# Altium integrated library STMicroelectronics STM32 L1.IntLib: 169 symbols (part 8 of 20)
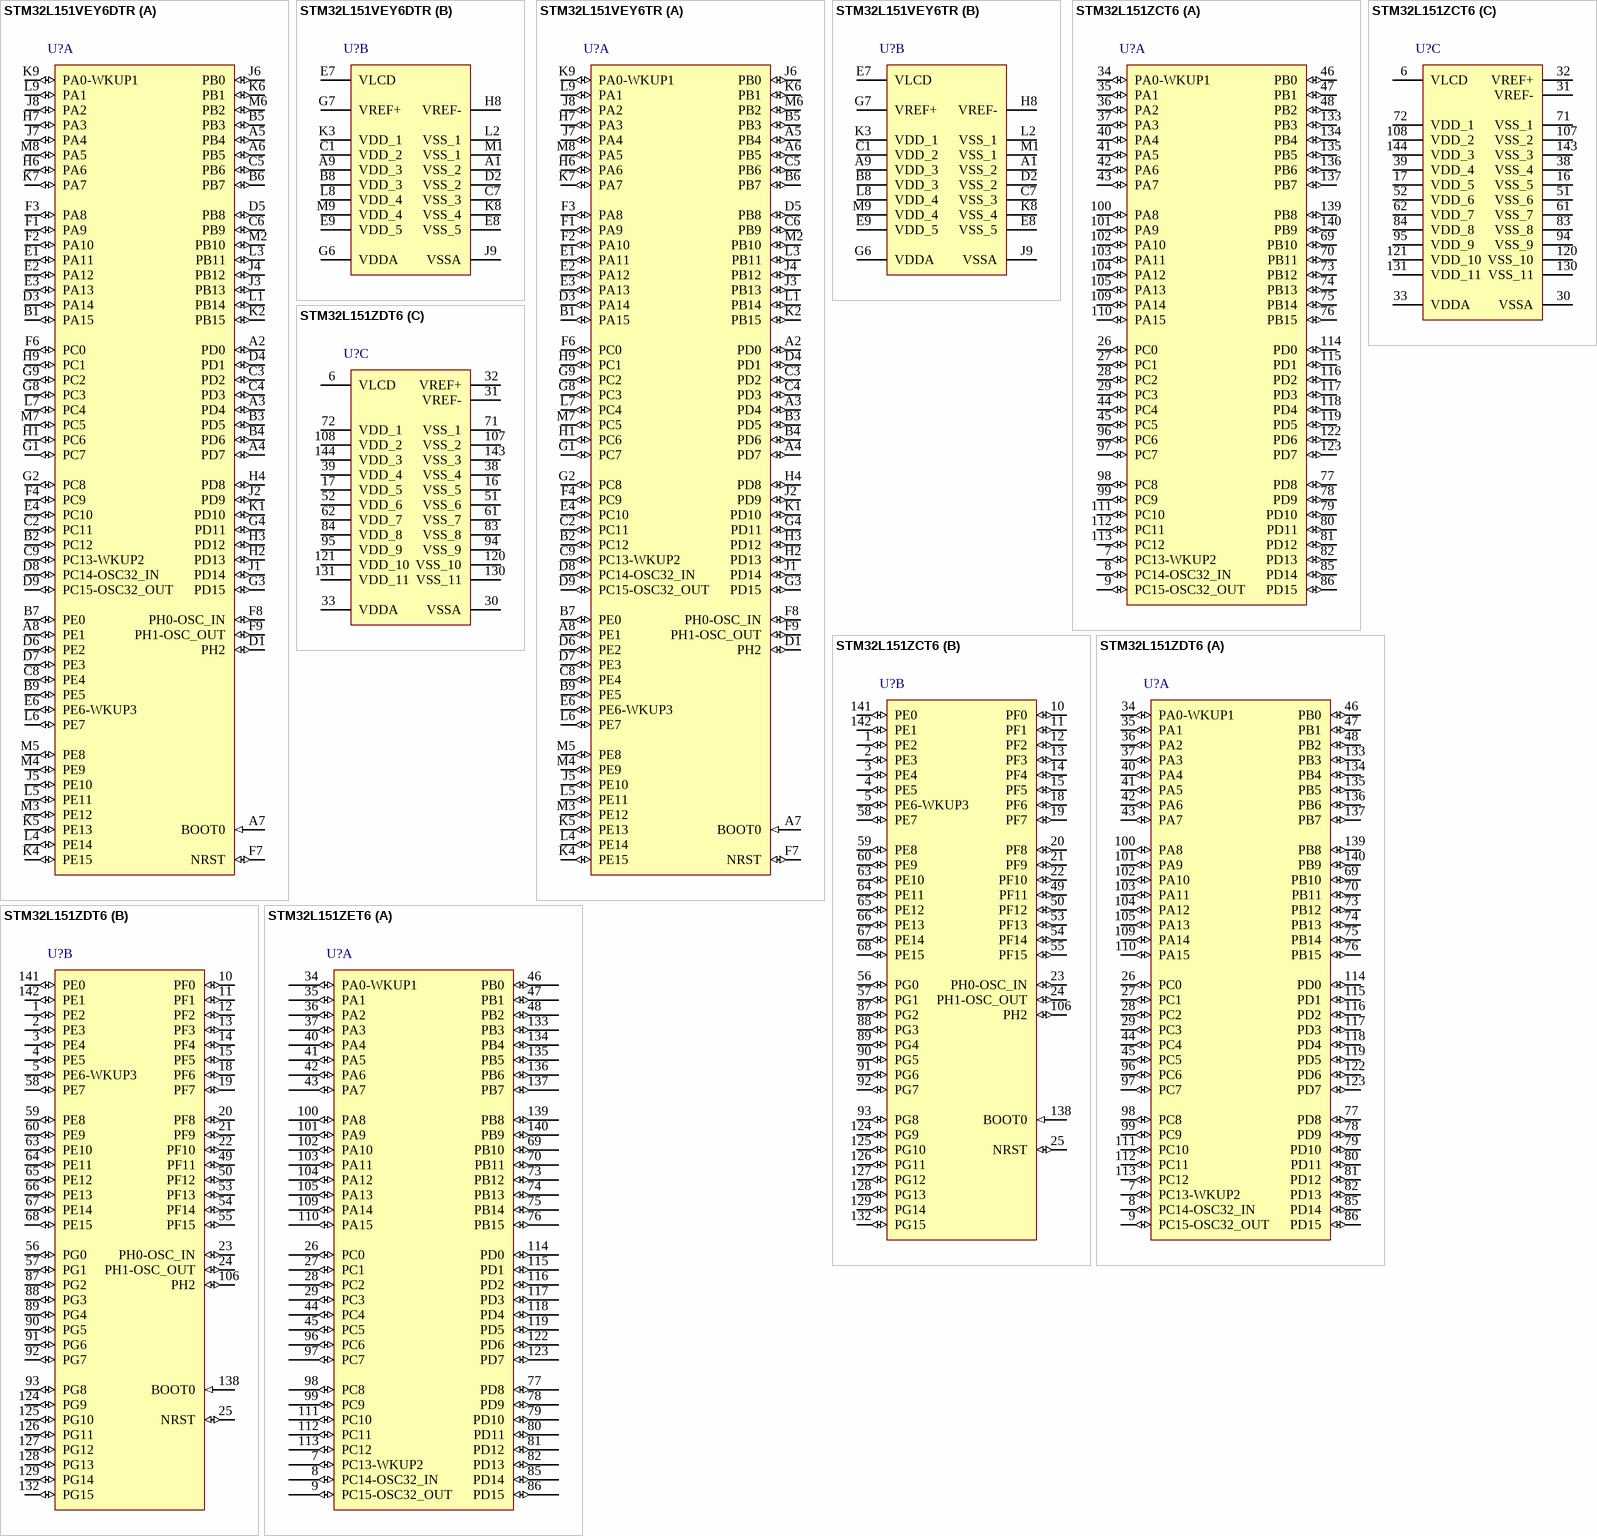
[diagram p41: symbols STM32L151VEY6DTR to STM32L151ZET6]

## STM32L151ZCT6
designator U?
ARM Cortex-M3 32-bit MCU, 256 KB Flash, 32 KB Internal RAM, 115 I/Os, 144-pin LQFP, -40 to 85 degC, Tray; Manufacturer: STMicroelectronics; PartNumber: STM32L151ZCT6; D/A Converter: 2x12-bit (2 Channel); Data E2PROM nom (B): 8192; FLASH Size (Prog) (kB): 256; I/Os (High Current): 115; Internal RAM Size (kB): 32; Supply Voltage(Vcc) min (V): 1.65; DatasheetVersion: Rev. 3; PackageVersion: Rev. 4, 06/2013; PackageReference: LQFP144; PackageDescription: 144-Pin Low Profile Quad Flat Package, 20 x 20 mm Body, 0.5 mm Pitch; Core: ARM Cortex-M3; Operating Frequency(F) (Processor speed) (MHz): 32; Packing: Tray; Mounting Technology: Surface Mount; ComponentLink1Description: Manufacturer URL; ComponentLink1URL: http://www.st.com/web/en/home.html; ComponentLink2Description: Datasheet; ComponentLink2URL: http://www.st.com/st-web-ui/static/active/en/resource/technical/document/datasheet/DM00048356.pdf; ComponentLink3Description: Package Specification; ComponentLink3URL: http://www.st.com/st-web-ui/static/active/en/resource/technical/document/datasheet/DM00037051.pdf
footprint STM-LQFP144_N (Thin QFP, 144-Leads, Body 20x20mm, Pitch 0.5mm, IPC Medium Density)
footprint STM-LQFP144_L (Thin QFP, 144-Leads, Body 20x20mm, Pitch 0.5mm, IPC High Density)
footprint STM-LQFP144_M (Thin QFP, 144-Leads, Body 20x20mm, Pitch 0.5mm, IPC Low Density)
footprint STM-LQFP144_V (Thin QFP, 144-Leads, Body 20x20mm, Pitch 0.5mm, ST Recommended)
part A pins: 7 PC13-WKUP2 (io) "PC13-WKUP2/PC13/WKUP2/RTC_TAMP1/RTC_TS/RTC_OUT", 8 PC14-OSC32_IN (io) "PC14-OSC32_IN/PC14/OSC32_IN", 9 PC15-OSC32_OUT (io) "PC15-OSC32_OUT/PC15/OSC32_OUT", 26 PC0 (io) "PC0/LCD_SEG18/ADC_IN10/COMP1_INP", 27 PC1 (io) "PC1/LCD_SEG19/ADC_IN11/COMP1_INP", 28 PC2 (io) "PC2/LCD_SEG20/ADC_IN12/COMP1_INP", 29 PC3 (io) "PC3/LCD_SEG21/ADC_IN13/COMP1_INP", 34 PA0-WKUP1 (io) "PA0-WKUP1/PA0/WKUP1/RTC_TAMP2/TIM2_CH1_ETR/TIM5_CH1/USART2_CTS/ADC_IN0/COMP1_INP", 35 PA1 (io) "PA1/TIM2_CH2/TIM5_CH2/USART2_RTS/LCD_SEG0/ADC_IN1/COMP1_INP/OPAMP1_VINP", 36 PA2 (io) "PA2/TIM2_CH3/TIM5_CH3/TIM9_CH1/USART2_TX/LCD_SEG1/ADC_IN2/COMP1_INP/OPAMP1_VINM", 37 PA3 (io) "PA3/TIM2_CH4/TIM5_CH4/TIM9_CH2/USART2_RX/LCD_SEG2/ADC_IN3/COMP1_INP/OPAMP1_VOUT", 40 PA4 (io) "PA4/SPI1_NSS/SPI3_NSS/I2S3_WS/USART2_CK/ADC_IN4/DAC_OUT1/COMP1_INP", 41 PA5 (io) "PA5/TIM2_CH1_ETR/SPI1_SCK/ADC_IN5/DAC_OUT2/COMP1_INP", 42 PA6 (io) "PA6/TIM3_CH1/TIM10_CH1/SPI1_MISO/LCD_SEG3/ADC_IN6/COMP1_INP/OPAMP2_VINP", 43 PA7 (io) "PA7/TIM3_CH2/TIM11_CH1/SPI1_MOSI/LCD_SEG4/ADC_IN7/COMP1_INP/OPAMP2_VINM", 44 PC4 (io) "PC4/LCD_SEG22/ADC_IN14/COMP1_INP", 45 PC5 (io) "PC5/LCD_SEG23/ADC_IN15/COMP1_INP", 46 PB0 (io) "PB0/TIM3_CH3/LCD_SEG5/ADC_IN8/COMP1_INP/VREF_OUT/OPAMP2_VOUT", 47 PB1 (io) "PB1/TIM3_CH4/LCD_SEG6/ADC_IN9/COMP1_INP/VREF_OUT", 48 PB2 (io) "PB2/BOOT1/ADC_IN0B/COMP1_INP", 69 PB10 (io) "PB10/TIM2_CH3/I2C2_SCL/USART3_TX/LCD_SEG10", 70 PB11 (io) "PB11/TIM2_CH4/I2C2_SDA/USART3_RX/LCD_SEG11", 73 PB12 (io) "PB12/TIM10_CH1/I2C2_SMBA/SPI2_NSS/I2S2_WS/USART3_CK/LCD_SEG12/ADC_IN18/COMP1_INP", 74 PB13 (io) "PB13/TIM9_CH1/SPI2_SCK/I2S2_CK/USART3_CTS/LCD_SEG13/ADC_IN19/COMP1_INP", 75 PB14 (io) "PB14/TIM9_CH2/SPI2_MISO/USART3_RTS/LCD_SEG14/ADC_IN20/COMP1_INP", 76 PB15 (io) "PB15/TIM11_CH1/SPI2_MOSI/I2S2_SD/LCD_SEG15/ADC_IN21/COMP1_INP/RTC_REFIN", 77 PD8 (io) "PD8/USART3_TX/LCD_SEG28", 78 PD9 (io) "PD9/USART3_RX/LCD_SEG29", 79 PD10 (io) "PD10/USART3_CK/LCD_SEG30", 80 PD11 (io) "PD11/USART3_CTS/LCD_SEG31", 81 PD12 (io) "PD12/TIM4_CH1/USART3_RTS/LCD_SEG32", 82 PD13 (io) "PD13/TIM4_CH2/LCD_SEG33", 85 PD14 (io) "PD14/TIM4_CH3/LCD_SEG34", 86 PD15 (io) "PD15/TIM4_CH4/LCD_SEG35", 96 PC6 (io) "PC6/TIM3_CH1/I2S2_MCK/LCD_SEG24", 97 PC7 (io) "PC7/TIM3_CH2/I2S3_MCK/LCD_SEG25", 98 PC8 (io) "PC8/TIM3_CH3/LCD_SEG26", 99 PC9 (io) "PC9/TIM3_CH4/LCD_SEG27", 100 PA8 (io) "PA8/USART1_CK/MCO/LCD_COM0", 101 PA9 (io) "PA9/USART1_TX/LCD_COM1", 102 PA10 (io) "PA10/USART1_RX/LCD_COM2", 103 PA11 (io) "PA11/USART1_CTS/USB_DM/SPI1_MISO", 104 PA12 (io) "PA12/USART1_RTS/USB_DP/SPI1_MOSI", 105 PA13 (io) "PA13/JTMS-SWDAT", 109 PA14 (io) "PA14/JTCK-SWCLK", 110 PA15 (io) "PA15/JTDI/TIM2_CH1_ETR/SPI1_NSS/SPI3_NSS/I2S3_WS/LCD_SEG17", 111 PC10 (io) "PC10/SPI3_SCK/I2S3_CK/USART3_TX/LCD_SEG28/LCD_SEG40/LCD_COM4", 112 PC11 (io) "PC11/SPI3_MISO/USART3_RX/LCD_SEG29/LCD_SEG41/LCD_COM5", 113 PC12 (io) "PC12/SPI3_MOSI/I2S3_SD/USART3_CK/LCD_SEG30/LCD_SEG42/LCD_COM6", 114 PD0 (io) "PD0/TIM9_CH1/SPI2_NSS/I2S2_WS", 115 PD1 (io) "PD1/SPI2_SCK/I2S2_CK", 116 PD2 (io) "PD2/TIM3_ETR/LCD_SEG31/LCD_SEG43/LCD_COM7", 117 PD3 (io) "PD3/SPI2_MISO/USART2_CTS", 118 PD4 (io) "PD4/SPI2_MOSI/I2S2_SD/USART2_RTS", 119 PD5 (io) "PD5/USART2_TX", 122 PD6 (io) "PD6/USART2_RX", 123 PD7 (io) "PD7/TIM9_CH2/USART2_CK", 133 PB3 (io) "PB3/JTDO/TIM2_CH2/SPI1_SCK/SPI3_SCK/I2S3_CK/LCD_SEG7/COMP2_INM", 134 PB4 (io) "PB4/NJTRST/TIM3_CH1/SPI1_MISO/SPI3_MISO/LCD_SEG8/COMP2_INP", 135 PB5 (io) "PB5/TIM3_CH2/I2C1_SMBA/SPI1_MOSI/SPI3_MOSI/I2S3_SD/LCD_SEG9/COMP2_INP", 136 PB6 (io) "PB6/TIM4_CH1/I2C1_SCL/USART1_TX/COMP2_INP", 137 PB7 (io) "PB7/TIM4_CH2/I2C1_SDA/USART1_RX/PVD_IN/COMP2_INP", 139 PB8 (io) "PB8/TIM4_CH3/TIM10_CH1/I2C1_SCL/LCD_SEG16", 140 PB9 (io) "PB9/TIM4_CH4/TIM11_CH1/I2C1_SDA/LCD_COM3"
part B pins: 1 PE2 (io) "PE2/TIM3_ETR/LCD_SEG38/TRACECLK", 2 PE3 (io) "PE3/TIM3_CH1/LCD_SEG39/TRACED0", 3 PE4 (io) "PE4/TIM3_CH2/TRACED1", 4 PE5 (io) "PE5/TIM9_CH1/TRACED2", 5 PE6-WKUP3 (io) "PE6-WKUP3/PE6/WKUP3/RTC_TAMP3/TIM9_CH2/TRACED3", 10 PF0 (io), 11 PF1 (io), 12 PF2 (io), 13 PF3 (io), 14 PF4 (io), 15 PF5 (io), 18 PF6 (io) "PF6/TIM5_CH1/TIM5_ETR/ADC_IN27", 19 PF7 (io) "PF7/TIM5_CH2/ADC_IN28/COMP1_INP", 20 PF8 (io) "PF8/TIM5_CH3/ADC_IN29/COMP1_INP", 21 PF9 (io) "PF9/TIM5_CH4/ADC_IN30/COMP1_INP", 22 PF10 (io) "PF10/ADC_IN30/COMP1_INP", 23 PH0-OSC_IN (io) "PH0-OSC_IN/PH0/OSC_IN", 24 PH1-OSC_OUT (io) "PH1-OSC_OUT/PH1/OSC_OUT", 25 NRST (io), 49 PF11 (io) "PF11/ADC_IN1B/COMP1_INP", 50 PF12 (io) "PF12/ADC_IN2B/COMP1_INP", 53 PF13 (io) "PF13/ADC_IN3B/COMP1_INP", 54 PF14 (io) "PF14/ADC_IN6B/COMP1_INP", 55 PF15 (io) "PF15/ADC_IN7B/COMP1_INP", 56 PG0 (io) "PG0/ADC_IN8B/COMP1_INP", 57 PG1 (io) "PG1/ADC_IN9B/COMP1_INP", 58 PE7 (io) "PE7/ADC_IN22/COMP1_INP", 59 PE8 (io) "PE8/ADC_IN23/COMP1_INP", 60 PE9 (io) "PE9/TIM2_CH1_ETR/ADC_IN24/COMP1_INP", 63 PE10 (io) "PE10/TIM2_CH2/ADC_IN25/COMP1_INP", 64 PE11 (io) "PE11/TIM2_CH3", 65 PE12 (io) "PE12/TIM2_CH4/SPI1_NSS", 66 PE13 (io) "PE13/SPI1_SCK", 67 PE14 (io) "PE14/SPI1_MISO", 68 PE15 (io) "PE15/SPI1_MOSI", 87 PG2 (io) "PG2/ADC_IN10B/COMP1_INP", 88 PG3 (io) "PG3/ADC_IN11B/COMP1_INP", 89 PG4 (io) "PG4/ADC_IN12B/COMP1_INP", 90 PG5 (io), 91 PG6 (io), 92 PG7 (io), 93 PG8 (io), 106 PH2 (io), 124 PG9 (io), 125 PG10 (io), 126 PG11 (io), 127 PG12 (io), 128 PG13 (io), 129 PG14 (io), 132 PG15 (io), 138 BOOT0 (in), 141 PE0 (io) "PE0/TIM4_ETR/TIM10_CH1/LCD_SEG36", 142 PE1 (io) "PE1/TIM11_CH1/LCD_SEG37"
part C pins: 6 VLCD (power), 16 VSS_5 (power), 17 VDD_5 (power), 30 VSSA (power), 31 VREF- (power), 32 VREF+ (power), 33 VDDA (power), 38 VSS_4 (power), 39 VDD_4 (power), 51 VSS_6 (power), 52 VDD_6 (power), 61 VSS_7 (power), 62 VDD_7 (power), 71 VSS_1 (power), 72 VDD_1 (power), 83 VSS_8 (power), 84 VDD_8 (power), 94 VSS_9 (power), 95 VDD_9 (power), 107 VSS_2 (power), 108 VDD_2 (power), 120 VSS_10 (power), 121 VDD_10 (power), 130 VSS_11 (power), 131 VDD_11 (power), 143 VSS_3 (power), 144 VDD_3 (power)

## STM32L151ZDT6
designator U?
ARM Cortex-M3 32-bit MCU, 384 KB Flash, 48 KB Internal RAM, 115 I/Os, 144-pin LQFP, -40 to 85 degC, Tray; Manufacturer: STMicroelectronics; PartNumber: STM32L151ZDT6; D/A Converter: 2x12-bit (2 Channel); Data E2PROM nom (B): 12288; FLASH Size (Prog) (kB): 384; I/Os (High Current): 115; Integrated op-amps: 3; Internal RAM Size (kB): 48; Operating Frequency(F) (Processor speed) (MHz): 32; Supply Voltage(Vcc) min (V): 1.65; DatasheetVersion: Rev. 6; PackageVersion: Rev. 4, 06/2013; PackageReference: LQFP144; PackageDescription: 144-Pin Low Profile Quad Flat Package, 20 x 20 mm Body, 0.5 mm Pitch; Core: ARM Cortex-M3; Packing: Tray; Mounting Technology: Surface Mount; ComponentLink1Description: Manufacturer URL; ComponentLink1URL: http://www.st.com/web/en/home.html; ComponentLink2Description: Datasheet; ComponentLink2URL: http://www.st.com/st-web-ui/static/active/en/resource/technical/document/datasheet/DM00034689.pdf; ComponentLink3Description: Package Specification; ComponentLink3URL: http://www.st.com/st-web-ui/static/active/en/resource/technical/document/datasheet/DM00037051.pdf
footprint STM-LQFP144_N (Thin QFP, 144-Leads, Body 20x20mm, Pitch 0.5mm, IPC Medium Density)
footprint STM-LQFP144_L (Thin QFP, 144-Leads, Body 20x20mm, Pitch 0.5mm, IPC High Density)
footprint STM-LQFP144_M (Thin QFP, 144-Leads, Body 20x20mm, Pitch 0.5mm, IPC Low Density)
footprint STM-LQFP144_V (Thin QFP, 144-Leads, Body 20x20mm, Pitch 0.5mm, ST Recommended)
part A pins: 7 PC13-WKUP2 (io) "PC13-WKUP2/PC13/WKUP2/RTC_TAMP1/RTC_TS/RTC_OUT", 8 PC14-OSC32_IN (io) "PC14-OSC32_IN/PC14/OSC32_IN", 9 PC15-OSC32_OUT (io) "PC15-OSC32_OUT/PC15/OSC32_OUT", 26 PC0 (io) "PC0/LCD_SEG18/ADC_IN10/COMP1_INP", 27 PC1 (io) "PC1/LCD_SEG19/ADC_IN11/COMP1_INP/OPAMP3_VINP", 28 PC2 (io) "PC2/LCD_SEG20/ADC_IN12/COMP1_INP/OPAMP3_VINM", 29 PC3 (io) "PC3/LCD_SEG21/ADC_IN13/COMP1_INP/OPAMP3_VOUT", 34 PA0-WKUP1 (io) "PA0-WKUP1/PA0/WKUP1/RTC_TAMP2/TIM2_CH1_ETR/TIM5_CH1/USART2_CTS/ADC_IN0/COMP1_INP", 35 PA1 (io) "PA1/TIM2_CH2/TIM5_CH2/USART2_RTS/LCD_SEG0/ADC_IN1/COMP1_INP/OPAMP1_VINP", 36 PA2 (io) "PA2/TIM2_CH3/TIM5_CH3/TIM9_CH1/USART2_TX/LCD_SEG1/ADC_IN2/COMP1_INP/OPAMP1_VINM", 37 PA3 (io) "PA3/TIM2_CH4/TIM5_CH4/TIM9_CH2/USART2_RX/LCD_SEG2/ADC_IN3/COMP1_INP/OPAMP1_VOUT", 40 PA4 (io) "PA4/SPI1_NSS/SPI3_NSS/I2S3_WS/USART2_CK/ADC_IN4/DAC_OUT1/COMP1_INP", 41 PA5 (io) "PA5/TIM2_CH1_ETR/SPI1_SCK/ADC_IN5/DAC_OUT2/COMP1_INP", 42 PA6 (io) "PA6/TIM3_CH1/TIM10_CH1/SPI1_MISO/LCD_SEG3/ADC_IN6/COMP1_INP/OPAMP2_VINP", 43 PA7 (io) "PA7/TIM3_CH2/TIM11_CH1/SPI1_MOSI/LCD_SEG4/ADC_IN7/COMP1_INP/OPAMP2_VINM", 44 PC4 (io) "PC4/LCD_SEG22/ADC_IN14/COMP1_INP", 45 PC5 (io) "PC5/LCD_SEG23/ADC_IN15/COMP1_INP", 46 PB0 (io) "PB0/TIM3_CH3/LCD_SEG5/ADC_IN8/COMP1_INP/VREF_OUT/OPAMP2_VOUT", 47 PB1 (io) "PB1/TIM3_CH4/LCD_SEG6/ADC_IN9/COMP1_INP/VREF_OUT", 48 PB2 (io) "PB2/BOOT1/ADC_IN0B/COMP1_INP", 69 PB10 (io) "PB10/TIM2_CH3/I2C2_SCL/USART3_TX/LCD_SEG10", 70 PB11 (io) "PB11/TIM2_CH4/I2C2_SDA/USART3_RX/LCD_SEG11", 73 PB12 (io) "PB12/TIM10_CH1/I2C2_SMBA/SPI2_NSS/I2S2_WS/USART3_CK/LCD_SEG12/ADC_IN18/COMP1_INP", 74 PB13 (io) "PB13/TIM9_CH1/SPI2_SCK/I2S2_CK/USART3_CTS/LCD_SEG13/ADC_IN19/COMP1_INP", 75 PB14 (io) "PB14/TIM9_CH2/SPI2_MISO/USART3_RTS/LCD_SEG14/ADC_IN20/COMP1_INP", 76 PB15 (io) "PB15/TIM11_CH1/SPI2_MOSI/I2S2_SD/LCD_SEG15/ADC_IN21/COMP1_INP/RTC_REFIN", 77 PD8 (io) "PD8/USART3_TX/LCD_SEG28/FSMC_D13", 78 PD9 (io) "PD9/USART3_RX/LCD_SEG29/FSMC_D14", 79 PD10 (io) "PD10/USART3_CK/LCD_SEG30/FSMC_D15", 80 PD11 (io) "PD11/USART3_CTS/LCD_SEG31/FSMC_A16", 81 PD12 (io) "PD12/TIM4_CH1/USART3_RTS/LCD_SEG32/FSMC_A17", 82 PD13 (io) "PD13/TIM4_CH2/LCD_SEG33/FSMC_A18", 85 PD14 (io) "PD14/TIM4_CH3/LCD_SEG34/FSMC_D0", 86 PD15 (io) "PD15/TIM4_CH4/LCD_SEG35/FSMC_D1", 96 PC6 (io) "PC6/TIM3_CH1/I2S2_MCK/LCD_SEG24/SDIO_D6", 97 PC7 (io) "PC7/TIM3_CH2/I2S3_MCK/LCD_SEG25/SDIO_D7", 98 PC8 (io) "PC8/TIM3_CH3/LCD_SEG26/SDIO_D0", 99 PC9 (io) "PC9/TIM3_CH4/LCD_SEG27/SDIO_D1", 100 PA8 (io) "PA8/USART1_CK/MCO/LCD_COM0", 101 PA9 (io) "PA9/USART1_TX/LCD_COM1", 102 PA10 (io) "PA10/USART1_RX/LCD_COM2", 103 PA11 (io) "PA11/USART1_CTS/USB_DM/SPI1_MISO", 104 PA12 (io) "PA12/USART1_RTS/USB_DP/SPI1_MOSI", 105 PA13 (io) "PA13/JTMS-SWDAT", 109 PA14 (io) "PA14/JTCK-SWCLK", 110 PA15 (io) "PA15/JTDI/TIM2_CH1_ETR/SPI1_NSS/SPI3_NSS/I2S3_WS/LCD_SEG17", 111 PC10 (io) "PC10/SPI3_SCK/I2S3_CK/USART3_TX/UART4_TX/LCD_SEG28/LCD_SEG40/LCD_COM4/SDIO_D2", 112 PC11 (io) "PC11/SPI3_MISO/USART3_RX/UART4_RX/LCD_SEG29/LCD_SEG41/LCD_COM5/SDIO_D3", 113 PC12 (io) "PC12/SPI3_MOSI/I2S3_SD/USART3_CK/UART5_TX/LCD_SEG30/LCD_SEG42/LCD_COM6/SDIO_CK", 114 PD0 (io) "PD0/TIM9_CH1/SPI2_NSS/I2S2_WS/FSMC_D2", 115 PD1 (io) "PD1/SPI2_SCK/I2S2_CK/FSMC_D3", 116 PD2 (io) "PD2/TIM3_ETR/UART5_RX/LCD_SEG31/LCD_SEG43/LCD_COM7/SDIO_CMD", 117 PD3 (io) "PD3/SPI2_MISO/USART2_CTS/FSMC_CLK", 118 PD4 (io) "PD4/SPI2_MOSI/I2S2_SD/USART2_RTS/FSMC_NOE", 119 PD5 (io) "PD5/USART2_TX/FSMC_NWE", 122 PD6 (io) "PD6/USART2_RX/FSMC_NWAIT", 123 PD7 (io) "PD7/TIM9_CH2/USART2_CK/FSMC_NE1", 133 PB3 (io) "PB3/JTDO/TIM2_CH2/SPI1_SCK/SPI3_SCK/I2S3_CK/LCD_SEG7/COMP2_INM", 134 PB4 (io) "PB4/NJTRST/TIM3_CH1/SPI1_MISO/SPI3_MISO/LCD_SEG8/COMP2_INP", 135 PB5 (io) "PB5/TIM3_CH2/I2C1_SMBA/SPI1_MOSI/SPI3_MOSI/I2S3_SD/LCD_SEG9/COMP2_INP", 136 PB6 (io) "PB6/TIM4_CH1/I2C1_SCL/USART1_TX/COMP2_INP", 137 PB7 (io) "PB7/TIM4_CH2/I2C1_SDA/USART1_RX/PVD_IN/FSMC_NADV/COMP2_INP", 139 PB8 (io) "PB8/TIM4_CH3/TIM10_CH1/I2C1_SCL/LCD_SEG16/SDIO_D4", 140 PB9 (io) "PB9/TIM4_CH4/TIM11_CH1/I2C1_SDA/LCD_COM3/SDIO_D5"
part B pins: 1 PE2 (io) "PE2/TIM3_ETR/LCD_SEG38/FSMC_A23/TRACECLK", 2 PE3 (io) "PE3/TIM3_CH1/LCD_SEG39/FSMC_A19/TRACED0", 3 PE4 (io) "PE4/TIM3_CH2/FSMC_A20/TRACED1", 4 PE5 (io) "PE5/TIM9_CH1/FSMC_A21/TRACED2", 5 PE6-WKUP3 (io) "PE6-WKUP3/PE6/WKUP3/RTC_TAMP3/TIM9_CH2/TRACED3", 10 PF0 (io) "PF0/FSMC_A0", 11 PF1 (io) "PF1/FSMC_A1", 12 PF2 (io) "PF2/FSMC_A2", 13 PF3 (io) "PF3/FSMC_A3", 14 PF4 (io) "PF4/FSMC_A4", 15 PF5 (io) "PF5/FSMC_A5", 18 PF6 (io) "PF6/TIM5_CH1/TIM5_ETR/ADC_IN27", 19 PF7 (io) "PF7/TIM5_CH2/ADC_IN28/COMP1_INP", 20 PF8 (io) "PF8/TIM5_CH3/ADC_IN29/COMP1_INP", 21 PF9 (io) "PF9/TIM5_CH4/ADC_IN30/COMP1_INP", 22 PF10 (io) "PF10/ADC_IN30/COMP1_INP", 23 PH0-OSC_IN (io) "PH0-OSC_IN/PH0/OSC_IN", 24 PH1-OSC_OUT (io) "PH1-OSC_OUT/PH1/OSC_OUT", 25 NRST (io), 49 PF11 (io) "PF11/ADC_IN1B/COMP1_INP", 50 PF12 (io) "PF12/ADC_IN2B/COMP1_INP/FSMC_A6", 53 PF13 (io) "PF13/ADC_IN3B/COMP1_INP/FSMC_A7", 54 PF14 (io) "PF14/ADC_IN6B/COMP1_INP/FSMC_A8", 55 PF15 (io) "PF15/ADC_IN7B/COMP1_INP/FSMC_A9", 56 PG0 (io) "PG0/ADC_IN8B/COMP1_INP/FSMC_A10", 57 PG1 (io) "PG1/ADC_IN9B/COMP1_INP/FSMC_A11", 58 PE7 (io) "PE7/FSMC_D4/ADC_IN22/COMP1_INP", 59 PE8 (io) "PE8/FSMC_D5/ADC_IN23/COMP1_INP", 60 PE9 (io) "PE9/TIM2_CH1_ETR/FSMC_D6/ADC_IN24/COMP1_INP", 63 PE10 (io) "PE10/TIM2_CH2/FSMC_D7/ADC_IN25/COMP1_INP", 64 PE11 (io) "PE11/TIM2_CH3/FSMC_D8", 65 PE12 (io) "PE12/TIM2_CH4/SPI1_NSS/FSMC_D9", 66 PE13 (io) "PE13/SPI1_SCK/FSMC_D10", 67 PE14 (io) "PE14/SPI1_MISO/FSMC_D11", 68 PE15 (io) "PE15/SPI1_MOSI/FSMC_D12", 87 PG2 (io) "PG2/FSMC_A12/ADC_IN10B/COMP1_INP", 88 PG3 (io) "PG3/FSMC_A13/ADC_IN11B/COMP1_INP", 89 PG4 (io) "PG4/FSMC_A14/ADC_IN12B/COMP1_INP", 90 PG5 (io) "PG5/FSMC_A15", 91 PG6 (io), 92 PG7 (io), 93 PG8 (io), 106 PH2 (io) "PH2/FSMC_A22", 124 PG9 (io) "PG9/FSMC_NE2", 125 PG10 (io) "PG10/FSMC_NE3", 126 PG11 (io), 127 PG12 (io) "PG12/FSMC_NE4", 128 PG13 (io) "PG13/FSMC_A24", 129 PG14 (io) "PG14/FSMC_A25", 132 PG15 (io), 138 BOOT0 (in), 141 PE0 (io) "PE0/TIM4_ETR/TIM10_CH1/LCD_SEG36/FSMC_NBL0", 142 PE1 (io) "PE1/TIM11_CH1/LCD_SEG37/FSMC_NBL1"
part C pins: 6 VLCD (power), 16 VSS_5 (power), 17 VDD_5 (power), 30 VSSA (power), 31 VREF- (power), 32 VREF+ (power), 33 VDDA (power), 38 VSS_4 (power), 39 VDD_4 (power), 51 VSS_6 (power), 52 VDD_6 (power), 61 VSS_7 (power), 62 VDD_7 (power), 71 VSS_1 (power), 72 VDD_1 (power), 83 VSS_8 (power), 84 VDD_8 (power), 94 VSS_9 (power), 95 VDD_9 (power), 107 VSS_2 (power), 108 VDD_2 (power), 120 VSS_10 (power), 121 VDD_10 (power), 130 VSS_11 (power), 131 VDD_11 (power), 143 VSS_3 (power), 144 VDD_3 (power)

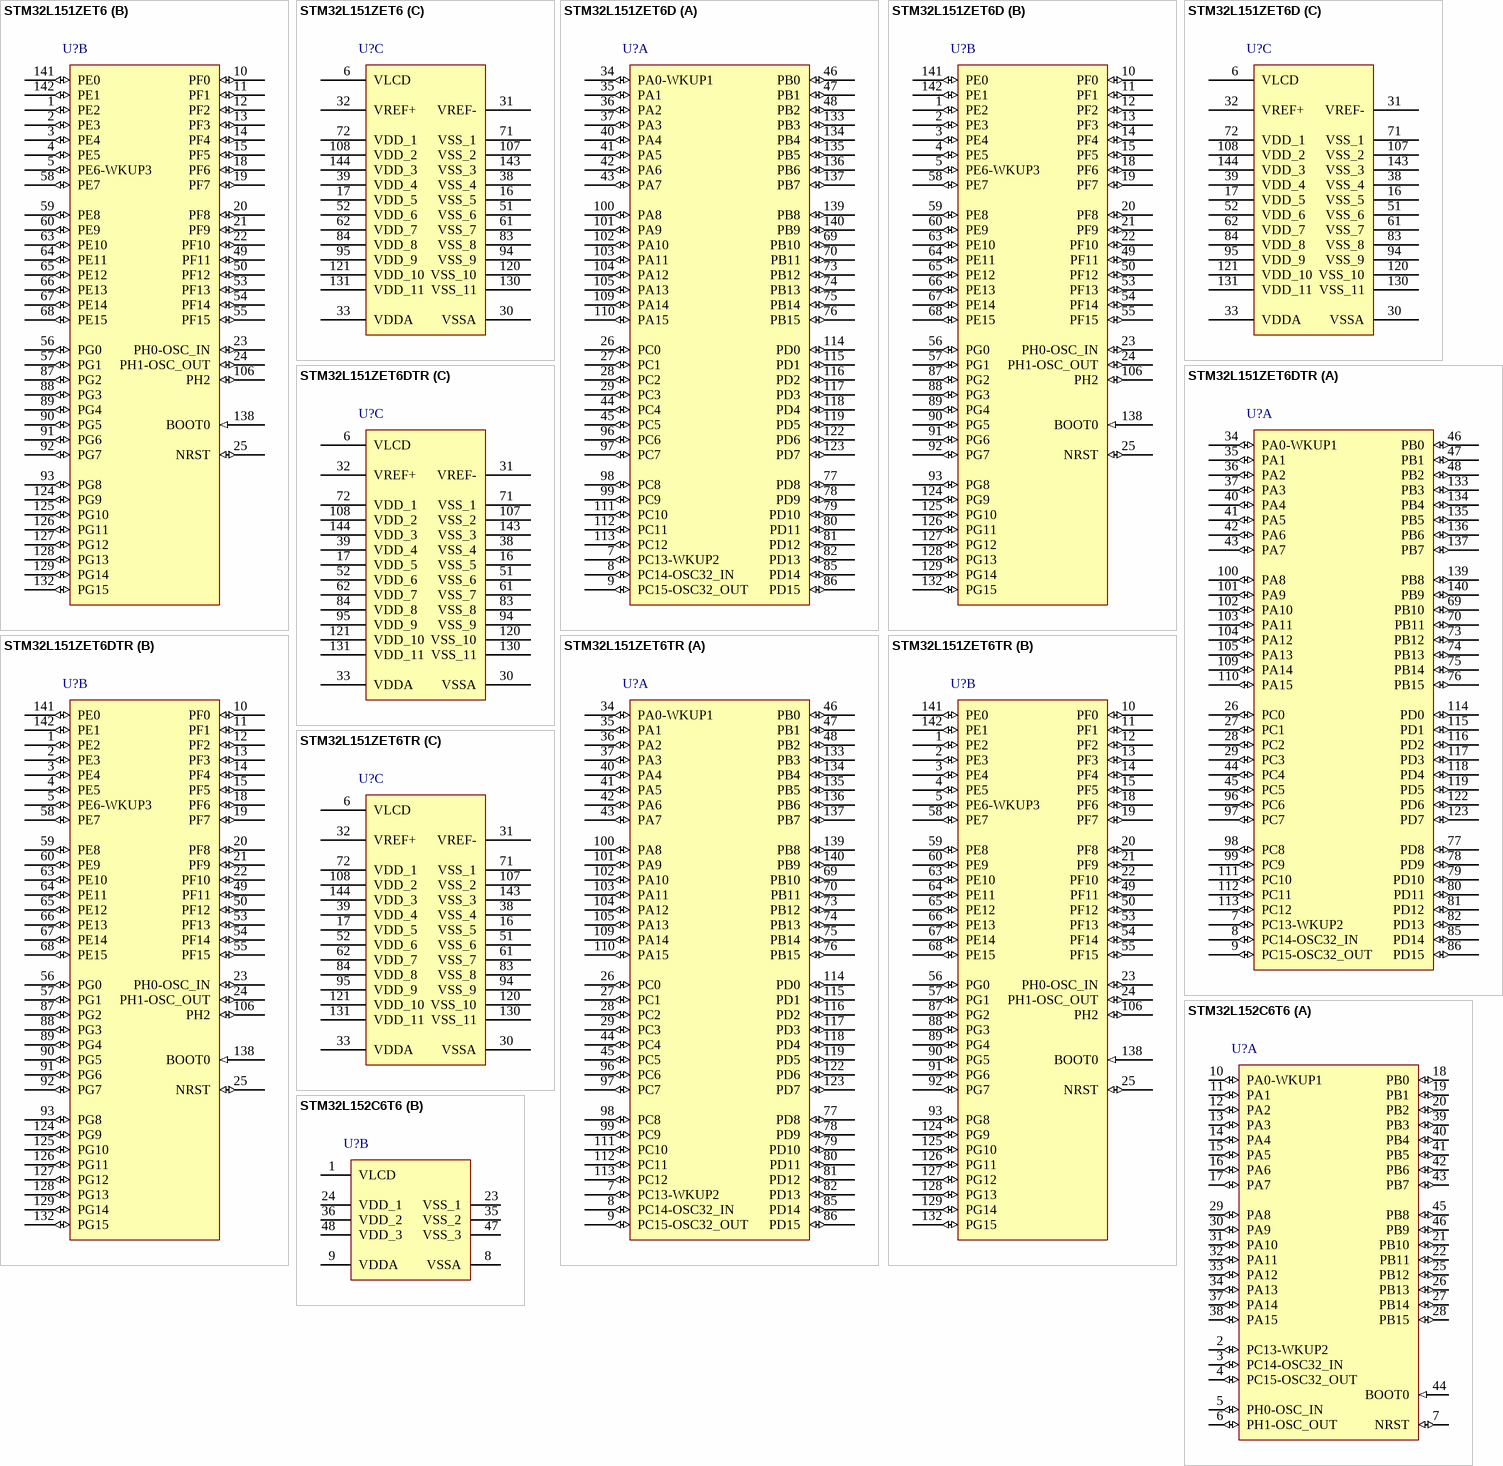
[diagram p12: symbols STM32L151ZET6 to STM32L152C6T6]

## STM32L151ZET6
designator U?
ARM Cortex-M3 32-bit MCU, 512 KB Flash, 80 KB Internal RAM, 115 I/Os, 144-pin LQFP, -40 to 85 degC, Tray; Manufacturer: STMicroelectronics; PartNumber: STM32L151ZET6; D/A Converter: 2x12-bit (2 Channel); Data E2PROM nom (kB): 16; FLASH Size (Prog) (kB): 512; I/Os (High Current): 115; Internal RAM Size (kB): 80; Operating Frequency(F) (Processor speed) (MHz): 32; Supply Voltage (V): 1.8 to 3.6 V; DatasheetVersion: Rev. 4; PackageVersion: Rev. 4; PackageReference: LQFP144; PackageDescription: 144-Pin Low Profile Quad Flat Package, Body 20 x 20 mm, Pitch 0.5 mm; Core: ARM Cortex-M3; Temperature Range: -40 to 85 degC; Packing: Tray; Mounting Technology: Surface Mount; ComponentLink1Description: Manufacturer URL; ComponentLink1URL: http://www.st.com/web/en/home.html; ComponentLink2Description: Datasheet; ComponentLink2URL: http://www.st.com/st-web-ui/static/active/en/resource/technical/document/datasheet/DM00098321.pdf; ComponentLink3Description: Package Specification; ComponentLink3URL: http://www.st.com/st-web-ui/static/active/en/resource/technical/document/datasheet/DM00098321.pdf
footprint STM-LQFP144_N (Thin QFP, 144-Leads, Body 20x20mm, Pitch 0.5mm, IPC Medium Density)
footprint STM-LQFP144_L (Thin QFP, 144-Leads, Body 20x20mm, Pitch 0.5mm, IPC High Density)
footprint STM-LQFP144_M (Thin QFP, 144-Leads, Body 20x20mm, Pitch 0.5mm, IPC Low Density)
footprint STM-LQFP144_V (Thin QFP, 144-Leads, Body 20x20mm, Pitch 0.5mm, ST Recommended)
part A pins: 7 PC13-WKUP2 (io) "PC13-WKUP2/PC13/WKUP2/RTC_TAMP1/RTC_TS/RTC_OUT", 8 PC14-OSC32_IN (io) "PC14-OSC32_IN/PC14/OSC32_IN", 9 PC15-OSC32_OUT (io) "PC15-OSC32_OUT/PC15/OSC32_OUT", 26 PC0 (io) "PC0/LCD_SEG18/ADC_IN10/COMP1_INP", 27 PC1 (io) "PC1/LCD_SEG19/ADC_IN11/COMP1_INP", 28 PC2 (io) "PC2/LCD_SEG20/ADC_IN12/COMP1_INP", 29 PC3 (io) "PC3/LCD_SEG21/ADC_IN13/COMP1_INP", 34 PA0-WKUP1 (io) "PA0-WKUP1/PA0/WKUP1/RTC_TAMP2/TIM2_CH1_ETR/TIM5_CH1/USART2_CTS/ADC_IN0/COMP1_INP", 35 PA1 (io) "PA1/TIM2_CH2/TIM5_CH2/USART2_RTS/LCD_SEG0/ADC_IN1/COMP1_INP/OPAMP1_VINP", 36 PA2 (io) "PA2/TIM2_CH3/TIM5_CH3/TIM9_CH1/USART2_TX/LCD_SEG1/ADC_IN2/COMP1_INP/OPAMP1_VINM", 37 PA3 (io) "PA3/TIM2_CH4/TIM5_CH4/TIM9_CH2/USART2_RX/LCD_SEG2/ADC_IN3/COMP1_INP/OPAMP1_VOUT", 40 PA4 (io) "PA4/SPI1_NSS/SPI3_NSS/I2S3_WS/USART2_CK/ADC_IN4/DAC_OUT1/COMP1_INP", 41 PA5 (io) "PA5/TIM2_CH1_ETR/SPI1_SCK/ADC_IN5/DAC_OUT2/COMP1_INP", 42 PA6 (io) "PA6/TIM3_CH1/TIM10_CH1/SPI1_MISO/LCD_SEG3/ADC_IN6/COMP1_INP/OPAMP2_VINP", 43 PA7 (io) "PA7/TIM3_CH2/TIM11_CH1/SPI1_MOSI/LCD_SEG4/ADC_IN7/COMP1_INP/OPAMP2_VINM", 44 PC4 (io) "PC4/LCD_SEG22/ADC_IN14/COMP1_INP", 45 PC5 (io) "PC5/LCD_SEG23/ADC_IN15/COMP1_INP", 46 PB0 (io) "PB0/TIM3_CH3/LCD_SEG5/ADC_IN8/COMP1_INP/VREF_OUT/OPAMP2_VOUT", 47 PB1 (io) "PB1/TIM3_CH4/LCD_SEG6/ADC_IN9/COMP1_INP/VREF_OUT", 48 PB2 (io) "PB2/BOOT1/ADC_IN0b/COMP1_INP", 69 PB10 (io) "PB10/TIM2_CH3/I2C2_SCL/USART3_TX/LCD_SEG10", 70 PB11 (io) "PB11/TIM2_CH4/I2C2_SDA/USART3_RX/LCD_SEG11", 73 PB12 (io) "PB12/TIM10_CH1/I2C2_SMBA/SPI2_NSS/I2S2_WS/USART3_CK/LCD_SEG12/ADC_IN18/COMP1_INP", 74 PB13 (io) "PB13/TIM9_CH1/SPI2_SCK/I2S2_CK/USART3_CTS/LCD_SEG13/ADC_IN19/COMP1_INP", 75 PB14 (io) "PB14/TIM9_CH2/SPI2_MISO/USART3_RTS/LCD_SEG14/ADC_IN20/COMP1_INP", 76 PB15 (io) "PB15/TIM11_CH1/SPI2_MOSI/I2S2_SD/LCD_SEG15/ADC_IN21/COMP1_INP/RTC_REFIN", 77 PD8 (io) "PD8/USART3_TX/LCD_SEG28", 78 PD9 (io) "PD9/USART3_RX/LCD_SEG29", 79 PD10 (io) "PD10/USART3_CK/LCD_SEG30", 80 PD11 (io) "PD11/USART3_CTS/LCD_SEG31", 81 PD12 (io) "PD12/TIM4_CH1/USART3_RTS/LCD_SEG32", 82 PD13 (io) "PD13/TIM4_CH2/LCD_SEG33", 85 PD14 (io) "PD14/TIM4_CH3/LCD_SEG34", 86 PD15 (io) "PD15/TIM4_CH4/LCD_SEG35", 96 PC6 (io) "PC6/TIM3_CH1/I2S2_MCK/LCD_SEG24", 97 PC7 (io) "PC7/TIM3_CH2/I2S3_MCK/LCD_SEG25", 98 PC8 (io) "PC8/TIM3_CH3/LCD_SEG26", 99 PC9 (io) "PC9/TIM3_CH4/LCD_SEG27", 100 PA8 (io) "PA8/USART1_CK/MCO/LCD_COM0", 101 PA9 (io) "PA9/USART1_TX/LCD_COM1", 102 PA10 (io) "PA10/USART1_RX/LCD_COM2", 103 PA11 (io) "PA11/USART1_CTS/USB_DM/SPI1_MISO", 104 PA12 (io) "PA12/USART1_RTS/USB_DP/SPI1_MOSI", 105 PA13 (io) "PA13/JTMS-SWDAT", 109 PA14 (io) "PA14/JTCK-SWCLK", 110 PA15 (io) "PA15/JTDI/TIM2_CH1_ETR/SPI1_NSS/SPI3_NSS/I2S3_WS/LCD_SEG17", 111 PC10 (io) "PC10/SPI3_SCK/I2S3_CK/USART3_TX/UART4_TX/LCD_SEG28/LCD_SEG40/LCD_COM4", 112 PC11 (io) "PC11/SPI3_MISO/USART3_RX/UART4_RX/LCD_SEG29/LCD_SEG41/LCD_COM5", 113 PC12 (io) "PC12/SPI3_MOSI/I2S3_SD/USART3_CK/UART5_TX/LCD_SEG30/LCD_SEG42/LCD_COM6", 114 PD0 (io) "PD0/TIM9_CH1/SPI2_NSS/I2S2_WS", 115 PD1 (io) "PD1/SPI2_SCK/I2S2_CK", 116 PD2 (io) "PD2/TIM3_ETR/UART5_RX/LCD_SEG31/LCD_SEG43/LCD_COM7", 117 PD3 (io) "PD3/SPI2_MISO/USART2_CTS", 118 PD4 (io) "PD4/SPI2_MOSI/I2S2_SD/USART2_RTS", 119 PD5 (io) "PD5/USART2_TX", 122 PD6 (io) "PD6/USART2_RX", 123 PD7 (io) "PD7/TIM9_CH2/USART2_CK", 133 PB3 (io) "PB3/JTDO/TIM2_CH2/SPI1_SCK/SPI3_SCK/I2S3_CK/LCD_SEG7/COMP2_INM", 134 PB4 (io) "PB4/NJTRST/TIM3_CH1/SPI1_MISO/SPI3_MISO/LCD_SEG8/COMP2_INP", 135 PB5 (io) "PB5/TIM3_CH2/I2C1_SMBA/SPI1_MOSI/SPI3_MOSI/I2S3_SD/LCD_SEG9/COMP2_INP", 136 PB6 (io) "PB6/TIM4_CH1/I2C1_SCL/USART1_TX/COMP2_INP", 137 PB7 (io) "PB7/TIM4_CH2/I2C1_SDA/USART1_RX/PVD_IN/COMP2_INP", 139 PB8 (io) "PB8/TIM4_CH3/TIM10_CH1/I2C1_SCL/LCD_SEG16", 140 PB9 (io) "PB9/TIM4_CH4/TIM11_CH1/I2C1_SDA/LCD_COM3"
part B pins: 1 PE2 (io) "PE2/TIM3_ETR/LCD_SEG38/TRACECLK", 2 PE3 (io) "PE3/TIM3_CH1/LCD_SEG39/TRACED0", 3 PE4 (io) "PE4/TIM3_CH2/TRACED1", 4 PE5 (io) "PE5/TIM9_CH1/TRACED2", 5 PE6-WKUP3 (io) "PE6-WKUP3/PE6/WKUP3/RTC_TAMP3/TIM9_CH2/TRACED3", 10 PF0 (io), 11 PF1 (io), 12 PF2 (io), 13 PF3 (io), 14 PF4 (io), 15 PF5 (io), 18 PF6 (io) "PF6/TIM5_CH1/TIM5_ETR/ADC_IN27", 19 PF7 (io) "PF7/TIM5_CH2/ADC_IN28/COMP1_INP", 20 PF8 (io) "PF8/TIM5_CH3/ADC_IN29/COMP1_INP", 21 PF9 (io) "PF9/TIM5_CH4/ADC_IN30/COMP1_INP", 22 PF10 (io) "PF10/ADC_IN30/COMP1_INP", 23 PH0-OSC_IN (io) "PH0-OSC_IN/PH0/OSC_IN", 24 PH1-OSC_OUT (io) "PH1-OSC_OUT/PH1/OSC_OUT", 25 NRST (io), 49 PF11 (io) "PF11/ADC_IN1b/COMP1_INP", 50 PF12 (io) "PF12/ADC_IN2b/COMP1_INP", 53 PF13 (io) "PF13/ADC_IN3b/COMP1_INP", 54 PF14 (io) "PF14/ADC_IN6b/COMP1_INP", 55 PF15 (io) "PF15/ADC_IN7b/COMP1_INP", 56 PG0 (io) "PG0/ADC_IN8b/COMP1_INP", 57 PG1 (io) "PG1/ADC_IN9b/COMP1_INP", 58 PE7 (io) "PE7/ADC_IN22/COMP1_INP", 59 PE8 (io) "PE8/ADC_IN23/COMP1_INP", 60 PE9 (io) "PE9/TIM2_CH1_ETR/ADC_IN24/COMP1_INP", 63 PE10 (io) "PE10/TIM2_CH2/ADC_IN25/COMP1_INP", 64 PE11 (io) "PE11/TIM2_CH3", 65 PE12 (io) "PE12/TIM2_CH4/SPI1_NSS", 66 PE13 (io) "PE13/SPI1_SCK", 67 PE14 (io) "PE14/SPI1_MISO", 68 PE15 (io) "PE15/SPI1_MOSI", 87 PG2 (io) "PG2/ADC_IN10b/COMP1_INP", 88 PG3 (io) "PG3/ADC_IN11b/COMP1_INP", 89 PG4 (io) "PG4/ADC_IN12b/COMP1_INP", 90 PG5 (io), 91 PG6 (io), 92 PG7 (io), 93 PG8 (io), 106 PH2 (io), 124 PG9 (io), 125 PG10 (io), 126 PG11 (io), 127 PG12 (io), 128 PG13 (io), 129 PG14 (io), 132 PG15 (io), 138 BOOT0 (in), 141 PE0 (io) "PE0/TIM4_ETR/TIM10_CH1/LCD_SEG36", 142 PE1 (io) "PE1/TIM11_CH1/LCD_SEG37"
part C pins: 6 VLCD (power), 16 VSS_5 (power), 17 VDD_5 (power), 30 VSSA (power), 31 VREF- (power), 32 VREF+ (power), 33 VDDA (power), 38 VSS_4 (power), 39 VDD_4 (power), 51 VSS_6 (power), 52 VDD_6 (power), 61 VSS_7 (power), 62 VDD_7 (power), 71 VSS_1 (power), 72 VDD_1 (power), 83 VSS_8 (power), 84 VDD_8 (power), 94 VSS_9 (power), 95 VDD_9 (power), 107 VSS_2 (power), 108 VDD_2 (power), 120 VSS_10 (power), 121 VDD_10 (power), 130 VSS_11 (power), 131 VDD_11 (power), 143 VSS_3 (power), 144 VDD_3 (power)

## STM32L151ZET6D
designator U?
ARM Cortex-M3 32-bit MCU, 512 KB Flash, 80 KB Internal RAM, 115 I/Os, 144-pin LQFP, -40 to 85 degC, Tray; Manufacturer: STMicroelectronics; PartNumber: STM32L151ZET6D; D/A Converter: 2x12-bit (2 Channel); Data E2PROM nom (kB): 16; FLASH Size (Prog) (kB): 512; I/Os (High Current): 115; Internal RAM Size (kB): 80; Operating Frequency(F) (Processor speed) (MHz): 32; Supply Voltage (V): 1.65 to 3.6 V; DatasheetVersion: Rev. 4; PackageVersion: Rev. 4; PackageReference: LQFP144; PackageDescription: 144-Pin Low Profile Quad Flat Package, Body 20 x 20 mm, Pitch 0.5 mm; Core: ARM Cortex-M3; Temperature Range: -40 to 85 degC; Packing: Tray; Mounting Technology: Surface Mount; ComponentLink1Description: Manufacturer URL; ComponentLink1URL: http://www.st.com/web/en/home.html; ComponentLink2Description: Datasheet; ComponentLink2URL: http://www.st.com/st-web-ui/static/active/en/resource/technical/document/datasheet/DM00098321.pdf; ComponentLink3Description: Package Specification; ComponentLink3URL: http://www.st.com/st-web-ui/static/active/en/resource/technical/document/datasheet/DM00098321.pdf
footprint STM-LQFP144_N (Thin QFP, 144-Leads, Body 20x20mm, Pitch 0.5mm, IPC Medium Density)
footprint STM-LQFP144_L (Thin QFP, 144-Leads, Body 20x20mm, Pitch 0.5mm, IPC High Density)
footprint STM-LQFP144_M (Thin QFP, 144-Leads, Body 20x20mm, Pitch 0.5mm, IPC Low Density)
footprint STM-LQFP144_V (Thin QFP, 144-Leads, Body 20x20mm, Pitch 0.5mm, ST Recommended)
part A pins: 7 PC13-WKUP2 (io) "PC13-WKUP2/PC13/WKUP2/RTC_TAMP1/RTC_TS/RTC_OUT", 8 PC14-OSC32_IN (io) "PC14-OSC32_IN/PC14/OSC32_IN", 9 PC15-OSC32_OUT (io) "PC15-OSC32_OUT/PC15/OSC32_OUT", 26 PC0 (io) "PC0/LCD_SEG18/ADC_IN10/COMP1_INP", 27 PC1 (io) "PC1/LCD_SEG19/ADC_IN11/COMP1_INP", 28 PC2 (io) "PC2/LCD_SEG20/ADC_IN12/COMP1_INP", 29 PC3 (io) "PC3/LCD_SEG21/ADC_IN13/COMP1_INP", 34 PA0-WKUP1 (io) "PA0-WKUP1/PA0/WKUP1/RTC_TAMP2/TIM2_CH1_ETR/TIM5_CH1/USART2_CTS/ADC_IN0/COMP1_INP", 35 PA1 (io) "PA1/TIM2_CH2/TIM5_CH2/USART2_RTS/LCD_SEG0/ADC_IN1/COMP1_INP/OPAMP1_VINP", 36 PA2 (io) "PA2/TIM2_CH3/TIM5_CH3/TIM9_CH1/USART2_TX/LCD_SEG1/ADC_IN2/COMP1_INP/OPAMP1_VINM", 37 PA3 (io) "PA3/TIM2_CH4/TIM5_CH4/TIM9_CH2/USART2_RX/LCD_SEG2/ADC_IN3/COMP1_INP/OPAMP1_VOUT", 40 PA4 (io) "PA4/SPI1_NSS/SPI3_NSS/I2S3_WS/USART2_CK/ADC_IN4/DAC_OUT1/COMP1_INP", 41 PA5 (io) "PA5/TIM2_CH1_ETR/SPI1_SCK/ADC_IN5/DAC_OUT2/COMP1_INP", 42 PA6 (io) "PA6/TIM3_CH1/TIM10_CH1/SPI1_MISO/LCD_SEG3/ADC_IN6/COMP1_INP/OPAMP2_VINP", 43 PA7 (io) "PA7/TIM3_CH2/TIM11_CH1/SPI1_MOSI/LCD_SEG4/ADC_IN7/COMP1_INP/OPAMP2_VINM", 44 PC4 (io) "PC4/LCD_SEG22/ADC_IN14/COMP1_INP", 45 PC5 (io) "PC5/LCD_SEG23/ADC_IN15/COMP1_INP", 46 PB0 (io) "PB0/TIM3_CH3/LCD_SEG5/ADC_IN8/COMP1_INP/VREF_OUT/OPAMP2_VOUT", 47 PB1 (io) "PB1/TIM3_CH4/LCD_SEG6/ADC_IN9/COMP1_INP/VREF_OUT", 48 PB2 (io) "PB2/BOOT1/ADC_IN0b/COMP1_INP", 69 PB10 (io) "PB10/TIM2_CH3/I2C2_SCL/USART3_TX/LCD_SEG10", 70 PB11 (io) "PB11/TIM2_CH4/I2C2_SDA/USART3_RX/LCD_SEG11", 73 PB12 (io) "PB12/TIM10_CH1/I2C2_SMBA/SPI2_NSS/I2S2_WS/USART3_CK/LCD_SEG12/ADC_IN18/COMP1_INP", 74 PB13 (io) "PB13/TIM9_CH1/SPI2_SCK/I2S2_CK/USART3_CTS/LCD_SEG13/ADC_IN19/COMP1_INP", 75 PB14 (io) "PB14/TIM9_CH2/SPI2_MISO/USART3_RTS/LCD_SEG14/ADC_IN20/COMP1_INP", 76 PB15 (io) "PB15/TIM11_CH1/SPI2_MOSI/I2S2_SD/LCD_SEG15/ADC_IN21/COMP1_INP/RTC_REFIN", 77 PD8 (io) "PD8/USART3_TX/LCD_SEG28", 78 PD9 (io) "PD9/USART3_RX/LCD_SEG29", 79 PD10 (io) "PD10/USART3_CK/LCD_SEG30", 80 PD11 (io) "PD11/USART3_CTS/LCD_SEG31", 81 PD12 (io) "PD12/TIM4_CH1/USART3_RTS/LCD_SEG32", 82 PD13 (io) "PD13/TIM4_CH2/LCD_SEG33", 85 PD14 (io) "PD14/TIM4_CH3/LCD_SEG34", 86 PD15 (io) "PD15/TIM4_CH4/LCD_SEG35", 96 PC6 (io) "PC6/TIM3_CH1/I2S2_MCK/LCD_SEG24", 97 PC7 (io) "PC7/TIM3_CH2/I2S3_MCK/LCD_SEG25", 98 PC8 (io) "PC8/TIM3_CH3/LCD_SEG26", 99 PC9 (io) "PC9/TIM3_CH4/LCD_SEG27", 100 PA8 (io) "PA8/USART1_CK/MCO/LCD_COM0", 101 PA9 (io) "PA9/USART1_TX/LCD_COM1", 102 PA10 (io) "PA10/USART1_RX/LCD_COM2", 103 PA11 (io) "PA11/USART1_CTS/USB_DM/SPI1_MISO", 104 PA12 (io) "PA12/USART1_RTS/USB_DP/SPI1_MOSI", 105 PA13 (io) "PA13/JTMS-SWDAT", 109 PA14 (io) "PA14/JTCK-SWCLK", 110 PA15 (io) "PA15/JTDI/TIM2_CH1_ETR/SPI1_NSS/SPI3_NSS/I2S3_WS/LCD_SEG17", 111 PC10 (io) "PC10/SPI3_SCK/I2S3_CK/USART3_TX/UART4_TX/LCD_SEG28/LCD_SEG40/LCD_COM4", 112 PC11 (io) "PC11/SPI3_MISO/USART3_RX/UART4_RX/LCD_SEG29/LCD_SEG41/LCD_COM5", 113 PC12 (io) "PC12/SPI3_MOSI/I2S3_SD/USART3_CK/UART5_TX/LCD_SEG30/LCD_SEG42/LCD_COM6", 114 PD0 (io) "PD0/TIM9_CH1/SPI2_NSS/I2S2_WS", 115 PD1 (io) "PD1/SPI2_SCK/I2S2_CK", 116 PD2 (io) "PD2/TIM3_ETR/UART5_RX/LCD_SEG31/LCD_SEG43/LCD_COM7", 117 PD3 (io) "PD3/SPI2_MISO/USART2_CTS", 118 PD4 (io) "PD4/SPI2_MOSI/I2S2_SD/USART2_RTS", 119 PD5 (io) "PD5/USART2_TX", 122 PD6 (io) "PD6/USART2_RX", 123 PD7 (io) "PD7/TIM9_CH2/USART2_CK", 133 PB3 (io) "PB3/JTDO/TIM2_CH2/SPI1_SCK/SPI3_SCK/I2S3_CK/LCD_SEG7/COMP2_INM", 134 PB4 (io) "PB4/NJTRST/TIM3_CH1/SPI1_MISO/SPI3_MISO/LCD_SEG8/COMP2_INP", 135 PB5 (io) "PB5/TIM3_CH2/I2C1_SMBA/SPI1_MOSI/SPI3_MOSI/I2S3_SD/LCD_SEG9/COMP2_INP", 136 PB6 (io) "PB6/TIM4_CH1/I2C1_SCL/USART1_TX/COMP2_INP", 137 PB7 (io) "PB7/TIM4_CH2/I2C1_SDA/USART1_RX/PVD_IN/COMP2_INP", 139 PB8 (io) "PB8/TIM4_CH3/TIM10_CH1/I2C1_SCL/LCD_SEG16", 140 PB9 (io) "PB9/TIM4_CH4/TIM11_CH1/I2C1_SDA/LCD_COM3"
part B pins: 1 PE2 (io) "PE2/TIM3_ETR/LCD_SEG38/TRACECLK", 2 PE3 (io) "PE3/TIM3_CH1/LCD_SEG39/TRACED0", 3 PE4 (io) "PE4/TIM3_CH2/TRACED1", 4 PE5 (io) "PE5/TIM9_CH1/TRACED2", 5 PE6-WKUP3 (io) "PE6-WKUP3/PE6/WKUP3/RTC_TAMP3/TIM9_CH2/TRACED3", 10 PF0 (io), 11 PF1 (io), 12 PF2 (io), 13 PF3 (io), 14 PF4 (io), 15 PF5 (io), 18 PF6 (io) "PF6/TIM5_CH1/TIM5_ETR/ADC_IN27", 19 PF7 (io) "PF7/TIM5_CH2/ADC_IN28/COMP1_INP", 20 PF8 (io) "PF8/TIM5_CH3/ADC_IN29/COMP1_INP", 21 PF9 (io) "PF9/TIM5_CH4/ADC_IN30/COMP1_INP", 22 PF10 (io) "PF10/ADC_IN30/COMP1_INP", 23 PH0-OSC_IN (io) "PH0-OSC_IN/PH0/OSC_IN", 24 PH1-OSC_OUT (io) "PH1-OSC_OUT/PH1/OSC_OUT", 25 NRST (io), 49 PF11 (io) "PF11/ADC_IN1b/COMP1_INP", 50 PF12 (io) "PF12/ADC_IN2b/COMP1_INP", 53 PF13 (io) "PF13/ADC_IN3b/COMP1_INP", 54 PF14 (io) "PF14/ADC_IN6b/COMP1_INP", 55 PF15 (io) "PF15/ADC_IN7b/COMP1_INP", 56 PG0 (io) "PG0/ADC_IN8b/COMP1_INP", 57 PG1 (io) "PG1/ADC_IN9b/COMP1_INP", 58 PE7 (io) "PE7/ADC_IN22/COMP1_INP", 59 PE8 (io) "PE8/ADC_IN23/COMP1_INP", 60 PE9 (io) "PE9/TIM2_CH1_ETR/ADC_IN24/COMP1_INP", 63 PE10 (io) "PE10/TIM2_CH2/ADC_IN25/COMP1_INP", 64 PE11 (io) "PE11/TIM2_CH3", 65 PE12 (io) "PE12/TIM2_CH4/SPI1_NSS", 66 PE13 (io) "PE13/SPI1_SCK", 67 PE14 (io) "PE14/SPI1_MISO", 68 PE15 (io) "PE15/SPI1_MOSI", 87 PG2 (io) "PG2/ADC_IN10b/COMP1_INP", 88 PG3 (io) "PG3/ADC_IN11b/COMP1_INP", 89 PG4 (io) "PG4/ADC_IN12b/COMP1_INP", 90 PG5 (io), 91 PG6 (io), 92 PG7 (io), 93 PG8 (io), 106 PH2 (io), 124 PG9 (io), 125 PG10 (io), 126 PG11 (io), 127 PG12 (io), 128 PG13 (io), 129 PG14 (io), 132 PG15 (io), 138 BOOT0 (in), 141 PE0 (io) "PE0/TIM4_ETR/TIM10_CH1/LCD_SEG36", 142 PE1 (io) "PE1/TIM11_CH1/LCD_SEG37"
part C pins: 6 VLCD (power), 16 VSS_5 (power), 17 VDD_5 (power), 30 VSSA (power), 31 VREF- (power), 32 VREF+ (power), 33 VDDA (power), 38 VSS_4 (power), 39 VDD_4 (power), 51 VSS_6 (power), 52 VDD_6 (power), 61 VSS_7 (power), 62 VDD_7 (power), 71 VSS_1 (power), 72 VDD_1 (power), 83 VSS_8 (power), 84 VDD_8 (power), 94 VSS_9 (power), 95 VDD_9 (power), 107 VSS_2 (power), 108 VDD_2 (power), 120 VSS_10 (power), 121 VDD_10 (power), 130 VSS_11 (power), 131 VDD_11 (power), 143 VSS_3 (power), 144 VDD_3 (power)

## STM32L151ZET6DTR
designator U?
ARM Cortex-M3 32-bit MCU, 512 KB Flash, 80 KB Internal RAM, 115 I/Os, 144-pin LQFP, -40 to 85 degC, Tape and Reel; Manufacturer: STMicroelectronics; PartNumber: STM32L151ZET6DTR; D/A Converter: 2x12-bit (2 Channel); Data E2PROM nom (kB): 16; FLASH Size (Prog) (kB): 512; I/Os (High Current): 115; Internal RAM Size (kB): 80; Operating Frequency(F) (Processor speed) (MHz): 32; Supply Voltage (V): 1.65 to 3.6 V; DatasheetVersion: Rev. 4; PackageVersion: Rev. 4; PackageReference: LQFP144; PackageDescription: 144-Pin Low Profile Quad Flat Package, Body 20 x 20 mm, Pitch 0.5 mm; Core: ARM Cortex-M3; Temperature Range: -40 to 85 degC; Packing: Tape and Reel; Mounting Technology: Surface Mount; ComponentLink1Description: Manufacturer URL; ComponentLink1URL: http://www.st.com/web/en/home.html; ComponentLink2Description: Datasheet; ComponentLink2URL: http://www.st.com/st-web-ui/static/active/en/resource/technical/document/datasheet/DM00098321.pdf; ComponentLink3Description: Package Specification; ComponentLink3URL: http://www.st.com/st-web-ui/static/active/en/resource/technical/document/datasheet/DM00098321.pdf
footprint STM-LQFP144_N (Thin QFP, 144-Leads, Body 20x20mm, Pitch 0.5mm, IPC Medium Density)
footprint STM-LQFP144_L (Thin QFP, 144-Leads, Body 20x20mm, Pitch 0.5mm, IPC High Density)
footprint STM-LQFP144_M (Thin QFP, 144-Leads, Body 20x20mm, Pitch 0.5mm, IPC Low Density)
footprint STM-LQFP144_V (Thin QFP, 144-Leads, Body 20x20mm, Pitch 0.5mm, ST Recommended)
part A pins: 7 PC13-WKUP2 (io) "PC13-WKUP2/PC13/WKUP2/RTC_TAMP1/RTC_TS/RTC_OUT", 8 PC14-OSC32_IN (io) "PC14-OSC32_IN/PC14/OSC32_IN", 9 PC15-OSC32_OUT (io) "PC15-OSC32_OUT/PC15/OSC32_OUT", 26 PC0 (io) "PC0/LCD_SEG18/ADC_IN10/COMP1_INP", 27 PC1 (io) "PC1/LCD_SEG19/ADC_IN11/COMP1_INP", 28 PC2 (io) "PC2/LCD_SEG20/ADC_IN12/COMP1_INP", 29 PC3 (io) "PC3/LCD_SEG21/ADC_IN13/COMP1_INP", 34 PA0-WKUP1 (io) "PA0-WKUP1/PA0/WKUP1/RTC_TAMP2/TIM2_CH1_ETR/TIM5_CH1/USART2_CTS/ADC_IN0/COMP1_INP", 35 PA1 (io) "PA1/TIM2_CH2/TIM5_CH2/USART2_RTS/LCD_SEG0/ADC_IN1/COMP1_INP/OPAMP1_VINP", 36 PA2 (io) "PA2/TIM2_CH3/TIM5_CH3/TIM9_CH1/USART2_TX/LCD_SEG1/ADC_IN2/COMP1_INP/OPAMP1_VINM", 37 PA3 (io) "PA3/TIM2_CH4/TIM5_CH4/TIM9_CH2/USART2_RX/LCD_SEG2/ADC_IN3/COMP1_INP/OPAMP1_VOUT", 40 PA4 (io) "PA4/SPI1_NSS/SPI3_NSS/I2S3_WS/USART2_CK/ADC_IN4/DAC_OUT1/COMP1_INP", 41 PA5 (io) "PA5/TIM2_CH1_ETR/SPI1_SCK/ADC_IN5/DAC_OUT2/COMP1_INP", 42 PA6 (io) "PA6/TIM3_CH1/TIM10_CH1/SPI1_MISO/LCD_SEG3/ADC_IN6/COMP1_INP/OPAMP2_VINP", 43 PA7 (io) "PA7/TIM3_CH2/TIM11_CH1/SPI1_MOSI/LCD_SEG4/ADC_IN7/COMP1_INP/OPAMP2_VINM", 44 PC4 (io) "PC4/LCD_SEG22/ADC_IN14/COMP1_INP", 45 PC5 (io) "PC5/LCD_SEG23/ADC_IN15/COMP1_INP", 46 PB0 (io) "PB0/TIM3_CH3/LCD_SEG5/ADC_IN8/COMP1_INP/VREF_OUT/OPAMP2_VOUT", 47 PB1 (io) "PB1/TIM3_CH4/LCD_SEG6/ADC_IN9/COMP1_INP/VREF_OUT", 48 PB2 (io) "PB2/BOOT1/ADC_IN0b/COMP1_INP", 69 PB10 (io) "PB10/TIM2_CH3/I2C2_SCL/USART3_TX/LCD_SEG10", 70 PB11 (io) "PB11/TIM2_CH4/I2C2_SDA/USART3_RX/LCD_SEG11", 73 PB12 (io) "PB12/TIM10_CH1/I2C2_SMBA/SPI2_NSS/I2S2_WS/USART3_CK/LCD_SEG12/ADC_IN18/COMP1_INP", 74 PB13 (io) "PB13/TIM9_CH1/SPI2_SCK/I2S2_CK/USART3_CTS/LCD_SEG13/ADC_IN19/COMP1_INP", 75 PB14 (io) "PB14/TIM9_CH2/SPI2_MISO/USART3_RTS/LCD_SEG14/ADC_IN20/COMP1_INP", 76 PB15 (io) "PB15/TIM11_CH1/SPI2_MOSI/I2S2_SD/LCD_SEG15/ADC_IN21/COMP1_INP/RTC_REFIN", 77 PD8 (io) "PD8/USART3_TX/LCD_SEG28", 78 PD9 (io) "PD9/USART3_RX/LCD_SEG29", 79 PD10 (io) "PD10/USART3_CK/LCD_SEG30", 80 PD11 (io) "PD11/USART3_CTS/LCD_SEG31", 81 PD12 (io) "PD12/TIM4_CH1/USART3_RTS/LCD_SEG32", 82 PD13 (io) "PD13/TIM4_CH2/LCD_SEG33", 85 PD14 (io) "PD14/TIM4_CH3/LCD_SEG34", 86 PD15 (io) "PD15/TIM4_CH4/LCD_SEG35", 96 PC6 (io) "PC6/TIM3_CH1/I2S2_MCK/LCD_SEG24", 97 PC7 (io) "PC7/TIM3_CH2/I2S3_MCK/LCD_SEG25", 98 PC8 (io) "PC8/TIM3_CH3/LCD_SEG26", 99 PC9 (io) "PC9/TIM3_CH4/LCD_SEG27", 100 PA8 (io) "PA8/USART1_CK/MCO/LCD_COM0", 101 PA9 (io) "PA9/USART1_TX/LCD_COM1", 102 PA10 (io) "PA10/USART1_RX/LCD_COM2", 103 PA11 (io) "PA11/USART1_CTS/USB_DM/SPI1_MISO", 104 PA12 (io) "PA12/USART1_RTS/USB_DP/SPI1_MOSI", 105 PA13 (io) "PA13/JTMS-SWDAT", 109 PA14 (io) "PA14/JTCK-SWCLK", 110 PA15 (io) "PA15/JTDI/TIM2_CH1_ETR/SPI1_NSS/SPI3_NSS/I2S3_WS/LCD_SEG17", 111 PC10 (io) "PC10/SPI3_SCK/I2S3_CK/USART3_TX/UART4_TX/LCD_SEG28/LCD_SEG40/LCD_COM4", 112 PC11 (io) "PC11/SPI3_MISO/USART3_RX/UART4_RX/LCD_SEG29/LCD_SEG41/LCD_COM5", 113 PC12 (io) "PC12/SPI3_MOSI/I2S3_SD/USART3_CK/UART5_TX/LCD_SEG30/LCD_SEG42/LCD_COM6", 114 PD0 (io) "PD0/TIM9_CH1/SPI2_NSS/I2S2_WS", 115 PD1 (io) "PD1/SPI2_SCK/I2S2_CK", 116 PD2 (io) "PD2/TIM3_ETR/UART5_RX/LCD_SEG31/LCD_SEG43/LCD_COM7", 117 PD3 (io) "PD3/SPI2_MISO/USART2_CTS", 118 PD4 (io) "PD4/SPI2_MOSI/I2S2_SD/USART2_RTS", 119 PD5 (io) "PD5/USART2_TX", 122 PD6 (io) "PD6/USART2_RX", 123 PD7 (io) "PD7/TIM9_CH2/USART2_CK", 133 PB3 (io) "PB3/JTDO/TIM2_CH2/SPI1_SCK/SPI3_SCK/I2S3_CK/LCD_SEG7/COMP2_INM", 134 PB4 (io) "PB4/NJTRST/TIM3_CH1/SPI1_MISO/SPI3_MISO/LCD_SEG8/COMP2_INP", 135 PB5 (io) "PB5/TIM3_CH2/I2C1_SMBA/SPI1_MOSI/SPI3_MOSI/I2S3_SD/LCD_SEG9/COMP2_INP", 136 PB6 (io) "PB6/TIM4_CH1/I2C1_SCL/USART1_TX/COMP2_INP", 137 PB7 (io) "PB7/TIM4_CH2/I2C1_SDA/USART1_RX/PVD_IN/COMP2_INP", 139 PB8 (io) "PB8/TIM4_CH3/TIM10_CH1/I2C1_SCL/LCD_SEG16", 140 PB9 (io) "PB9/TIM4_CH4/TIM11_CH1/I2C1_SDA/LCD_COM3"
part B pins: 1 PE2 (io) "PE2/TIM3_ETR/LCD_SEG38/TRACECLK", 2 PE3 (io) "PE3/TIM3_CH1/LCD_SEG39/TRACED0", 3 PE4 (io) "PE4/TIM3_CH2/TRACED1", 4 PE5 (io) "PE5/TIM9_CH1/TRACED2", 5 PE6-WKUP3 (io) "PE6-WKUP3/PE6/WKUP3/RTC_TAMP3/TIM9_CH2/TRACED3", 10 PF0 (io), 11 PF1 (io), 12 PF2 (io), 13 PF3 (io), 14 PF4 (io), 15 PF5 (io), 18 PF6 (io) "PF6/TIM5_CH1/TIM5_ETR/ADC_IN27", 19 PF7 (io) "PF7/TIM5_CH2/ADC_IN28/COMP1_INP", 20 PF8 (io) "PF8/TIM5_CH3/ADC_IN29/COMP1_INP", 21 PF9 (io) "PF9/TIM5_CH4/ADC_IN30/COMP1_INP", 22 PF10 (io) "PF10/ADC_IN30/COMP1_INP", 23 PH0-OSC_IN (io) "PH0-OSC_IN/PH0/OSC_IN", 24 PH1-OSC_OUT (io) "PH1-OSC_OUT/PH1/OSC_OUT", 25 NRST (io), 49 PF11 (io) "PF11/ADC_IN1b/COMP1_INP", 50 PF12 (io) "PF12/ADC_IN2b/COMP1_INP", 53 PF13 (io) "PF13/ADC_IN3b/COMP1_INP", 54 PF14 (io) "PF14/ADC_IN6b/COMP1_INP", 55 PF15 (io) "PF15/ADC_IN7b/COMP1_INP", 56 PG0 (io) "PG0/ADC_IN8b/COMP1_INP", 57 PG1 (io) "PG1/ADC_IN9b/COMP1_INP", 58 PE7 (io) "PE7/ADC_IN22/COMP1_INP", 59 PE8 (io) "PE8/ADC_IN23/COMP1_INP", 60 PE9 (io) "PE9/TIM2_CH1_ETR/ADC_IN24/COMP1_INP", 63 PE10 (io) "PE10/TIM2_CH2/ADC_IN25/COMP1_INP", 64 PE11 (io) "PE11/TIM2_CH3", 65 PE12 (io) "PE12/TIM2_CH4/SPI1_NSS", 66 PE13 (io) "PE13/SPI1_SCK", 67 PE14 (io) "PE14/SPI1_MISO", 68 PE15 (io) "PE15/SPI1_MOSI", 87 PG2 (io) "PG2/ADC_IN10b/COMP1_INP", 88 PG3 (io) "PG3/ADC_IN11b/COMP1_INP", 89 PG4 (io) "PG4/ADC_IN12b/COMP1_INP", 90 PG5 (io), 91 PG6 (io), 92 PG7 (io), 93 PG8 (io), 106 PH2 (io), 124 PG9 (io), 125 PG10 (io), 126 PG11 (io), 127 PG12 (io), 128 PG13 (io), 129 PG14 (io), 132 PG15 (io), 138 BOOT0 (in), 141 PE0 (io) "PE0/TIM4_ETR/TIM10_CH1/LCD_SEG36", 142 PE1 (io) "PE1/TIM11_CH1/LCD_SEG37"
part C pins: 6 VLCD (power), 16 VSS_5 (power), 17 VDD_5 (power), 30 VSSA (power), 31 VREF- (power), 32 VREF+ (power), 33 VDDA (power), 38 VSS_4 (power), 39 VDD_4 (power), 51 VSS_6 (power), 52 VDD_6 (power), 61 VSS_7 (power), 62 VDD_7 (power), 71 VSS_1 (power), 72 VDD_1 (power), 83 VSS_8 (power), 84 VDD_8 (power), 94 VSS_9 (power), 95 VDD_9 (power), 107 VSS_2 (power), 108 VDD_2 (power), 120 VSS_10 (power), 121 VDD_10 (power), 130 VSS_11 (power), 131 VDD_11 (power), 143 VSS_3 (power), 144 VDD_3 (power)

## STM32L151ZET6TR
designator U?
ARM Cortex-M3 32-bit MCU, 512 KB Flash, 80 KB Internal RAM, 115 I/Os, 144-pin LQFP, -40 to 85 degC, Tape and Reel; Manufacturer: STMicroelectronics; PartNumber: STM32L151ZET6TR; D/A Converter: 2x12-bit (2 Channel); Data E2PROM nom (kB): 16; FLASH Size (Prog) (kB): 512; I/Os (High Current): 115; Internal RAM Size (kB): 80; Operating Frequency(F) (Processor speed) (MHz): 32; Supply Voltage (V): 1.8 to 3.6 V; DatasheetVersion: Rev. 4; PackageVersion: Rev. 4; PackageReference: LQFP144; PackageDescription: 144-Pin Low Profile Quad Flat Package, Body 20 x 20 mm, Pitch 0.5 mm; Core: ARM Cortex-M3; Temperature Range: -40 to 85 degC; Packing: Tape and Reel; Mounting Technology: Surface Mount; ComponentLink1Description: Manufacturer URL; ComponentLink1URL: http://www.st.com/web/en/home.html; ComponentLink2Description: Datasheet; ComponentLink2URL: http://www.st.com/st-web-ui/static/active/en/resource/technical/document/datasheet/DM00098321.pdf; ComponentLink3Description: Package Specification; ComponentLink3URL: http://www.st.com/st-web-ui/static/active/en/resource/technical/document/datasheet/DM00098321.pdf
footprint STM-LQFP144_N (Thin QFP, 144-Leads, Body 20x20mm, Pitch 0.5mm, IPC Medium Density)
footprint STM-LQFP144_L (Thin QFP, 144-Leads, Body 20x20mm, Pitch 0.5mm, IPC High Density)
footprint STM-LQFP144_M (Thin QFP, 144-Leads, Body 20x20mm, Pitch 0.5mm, IPC Low Density)
footprint STM-LQFP144_V (Thin QFP, 144-Leads, Body 20x20mm, Pitch 0.5mm, ST Recommended)
part A pins: 7 PC13-WKUP2 (io) "PC13-WKUP2/PC13/WKUP2/RTC_TAMP1/RTC_TS/RTC_OUT", 8 PC14-OSC32_IN (io) "PC14-OSC32_IN/PC14/OSC32_IN", 9 PC15-OSC32_OUT (io) "PC15-OSC32_OUT/PC15/OSC32_OUT", 26 PC0 (io) "PC0/LCD_SEG18/ADC_IN10/COMP1_INP", 27 PC1 (io) "PC1/LCD_SEG19/ADC_IN11/COMP1_INP", 28 PC2 (io) "PC2/LCD_SEG20/ADC_IN12/COMP1_INP", 29 PC3 (io) "PC3/LCD_SEG21/ADC_IN13/COMP1_INP", 34 PA0-WKUP1 (io) "PA0-WKUP1/PA0/WKUP1/RTC_TAMP2/TIM2_CH1_ETR/TIM5_CH1/USART2_CTS/ADC_IN0/COMP1_INP", 35 PA1 (io) "PA1/TIM2_CH2/TIM5_CH2/USART2_RTS/LCD_SEG0/ADC_IN1/COMP1_INP/OPAMP1_VINP", 36 PA2 (io) "PA2/TIM2_CH3/TIM5_CH3/TIM9_CH1/USART2_TX/LCD_SEG1/ADC_IN2/COMP1_INP/OPAMP1_VINM", 37 PA3 (io) "PA3/TIM2_CH4/TIM5_CH4/TIM9_CH2/USART2_RX/LCD_SEG2/ADC_IN3/COMP1_INP/OPAMP1_VOUT", 40 PA4 (io) "PA4/SPI1_NSS/SPI3_NSS/I2S3_WS/USART2_CK/ADC_IN4/DAC_OUT1/COMP1_INP", 41 PA5 (io) "PA5/TIM2_CH1_ETR/SPI1_SCK/ADC_IN5/DAC_OUT2/COMP1_INP", 42 PA6 (io) "PA6/TIM3_CH1/TIM10_CH1/SPI1_MISO/LCD_SEG3/ADC_IN6/COMP1_INP/OPAMP2_VINP", 43 PA7 (io) "PA7/TIM3_CH2/TIM11_CH1/SPI1_MOSI/LCD_SEG4/ADC_IN7/COMP1_INP/OPAMP2_VINM", 44 PC4 (io) "PC4/LCD_SEG22/ADC_IN14/COMP1_INP", 45 PC5 (io) "PC5/LCD_SEG23/ADC_IN15/COMP1_INP", 46 PB0 (io) "PB0/TIM3_CH3/LCD_SEG5/ADC_IN8/COMP1_INP/VREF_OUT/OPAMP2_VOUT", 47 PB1 (io) "PB1/TIM3_CH4/LCD_SEG6/ADC_IN9/COMP1_INP/VREF_OUT", 48 PB2 (io) "PB2/BOOT1/ADC_IN0b/COMP1_INP", 69 PB10 (io) "PB10/TIM2_CH3/I2C2_SCL/USART3_TX/LCD_SEG10", 70 PB11 (io) "PB11/TIM2_CH4/I2C2_SDA/USART3_RX/LCD_SEG11", 73 PB12 (io) "PB12/TIM10_CH1/I2C2_SMBA/SPI2_NSS/I2S2_WS/USART3_CK/LCD_SEG12/ADC_IN18/COMP1_INP", 74 PB13 (io) "PB13/TIM9_CH1/SPI2_SCK/I2S2_CK/USART3_CTS/LCD_SEG13/ADC_IN19/COMP1_INP", 75 PB14 (io) "PB14/TIM9_CH2/SPI2_MISO/USART3_RTS/LCD_SEG14/ADC_IN20/COMP1_INP", 76 PB15 (io) "PB15/TIM11_CH1/SPI2_MOSI/I2S2_SD/LCD_SEG15/ADC_IN21/COMP1_INP/RTC_REFIN", 77 PD8 (io) "PD8/USART3_TX/LCD_SEG28", 78 PD9 (io) "PD9/USART3_RX/LCD_SEG29", 79 PD10 (io) "PD10/USART3_CK/LCD_SEG30", 80 PD11 (io) "PD11/USART3_CTS/LCD_SEG31", 81 PD12 (io) "PD12/TIM4_CH1/USART3_RTS/LCD_SEG32", 82 PD13 (io) "PD13/TIM4_CH2/LCD_SEG33", 85 PD14 (io) "PD14/TIM4_CH3/LCD_SEG34", 86 PD15 (io) "PD15/TIM4_CH4/LCD_SEG35", 96 PC6 (io) "PC6/TIM3_CH1/I2S2_MCK/LCD_SEG24", 97 PC7 (io) "PC7/TIM3_CH2/I2S3_MCK/LCD_SEG25", 98 PC8 (io) "PC8/TIM3_CH3/LCD_SEG26", 99 PC9 (io) "PC9/TIM3_CH4/LCD_SEG27", 100 PA8 (io) "PA8/USART1_CK/MCO/LCD_COM0", 101 PA9 (io) "PA9/USART1_TX/LCD_COM1", 102 PA10 (io) "PA10/USART1_RX/LCD_COM2", 103 PA11 (io) "PA11/USART1_CTS/USB_DM/SPI1_MISO", 104 PA12 (io) "PA12/USART1_RTS/USB_DP/SPI1_MOSI", 105 PA13 (io) "PA13/JTMS-SWDAT", 109 PA14 (io) "PA14/JTCK-SWCLK", 110 PA15 (io) "PA15/JTDI/TIM2_CH1_ETR/SPI1_NSS/SPI3_NSS/I2S3_WS/LCD_SEG17", 111 PC10 (io) "PC10/SPI3_SCK/I2S3_CK/USART3_TX/UART4_TX/LCD_SEG28/LCD_SEG40/LCD_COM4", 112 PC11 (io) "PC11/SPI3_MISO/USART3_RX/UART4_RX/LCD_SEG29/LCD_SEG41/LCD_COM5", 113 PC12 (io) "PC12/SPI3_MOSI/I2S3_SD/USART3_CK/UART5_TX/LCD_SEG30/LCD_SEG42/LCD_COM6", 114 PD0 (io) "PD0/TIM9_CH1/SPI2_NSS/I2S2_WS", 115 PD1 (io) "PD1/SPI2_SCK/I2S2_CK", 116 PD2 (io) "PD2/TIM3_ETR/UART5_RX/LCD_SEG31/LCD_SEG43/LCD_COM7", 117 PD3 (io) "PD3/SPI2_MISO/USART2_CTS", 118 PD4 (io) "PD4/SPI2_MOSI/I2S2_SD/USART2_RTS", 119 PD5 (io) "PD5/USART2_TX", 122 PD6 (io) "PD6/USART2_RX", 123 PD7 (io) "PD7/TIM9_CH2/USART2_CK", 133 PB3 (io) "PB3/JTDO/TIM2_CH2/SPI1_SCK/SPI3_SCK/I2S3_CK/LCD_SEG7/COMP2_INM", 134 PB4 (io) "PB4/NJTRST/TIM3_CH1/SPI1_MISO/SPI3_MISO/LCD_SEG8/COMP2_INP", 135 PB5 (io) "PB5/TIM3_CH2/I2C1_SMBA/SPI1_MOSI/SPI3_MOSI/I2S3_SD/LCD_SEG9/COMP2_INP", 136 PB6 (io) "PB6/TIM4_CH1/I2C1_SCL/USART1_TX/COMP2_INP", 137 PB7 (io) "PB7/TIM4_CH2/I2C1_SDA/USART1_RX/PVD_IN/COMP2_INP", 139 PB8 (io) "PB8/TIM4_CH3/TIM10_CH1/I2C1_SCL/LCD_SEG16", 140 PB9 (io) "PB9/TIM4_CH4/TIM11_CH1/I2C1_SDA/LCD_COM3"
part B pins: 1 PE2 (io) "PE2/TIM3_ETR/LCD_SEG38/TRACECLK", 2 PE3 (io) "PE3/TIM3_CH1/LCD_SEG39/TRACED0", 3 PE4 (io) "PE4/TIM3_CH2/TRACED1", 4 PE5 (io) "PE5/TIM9_CH1/TRACED2", 5 PE6-WKUP3 (io) "PE6-WKUP3/PE6/WKUP3/RTC_TAMP3/TIM9_CH2/TRACED3", 10 PF0 (io), 11 PF1 (io), 12 PF2 (io), 13 PF3 (io), 14 PF4 (io), 15 PF5 (io), 18 PF6 (io) "PF6/TIM5_CH1/TIM5_ETR/ADC_IN27", 19 PF7 (io) "PF7/TIM5_CH2/ADC_IN28/COMP1_INP", 20 PF8 (io) "PF8/TIM5_CH3/ADC_IN29/COMP1_INP", 21 PF9 (io) "PF9/TIM5_CH4/ADC_IN30/COMP1_INP", 22 PF10 (io) "PF10/ADC_IN30/COMP1_INP", 23 PH0-OSC_IN (io) "PH0-OSC_IN/PH0/OSC_IN", 24 PH1-OSC_OUT (io) "PH1-OSC_OUT/PH1/OSC_OUT", 25 NRST (io), 49 PF11 (io) "PF11/ADC_IN1b/COMP1_INP", 50 PF12 (io) "PF12/ADC_IN2b/COMP1_INP", 53 PF13 (io) "PF13/ADC_IN3b/COMP1_INP", 54 PF14 (io) "PF14/ADC_IN6b/COMP1_INP", 55 PF15 (io) "PF15/ADC_IN7b/COMP1_INP", 56 PG0 (io) "PG0/ADC_IN8b/COMP1_INP", 57 PG1 (io) "PG1/ADC_IN9b/COMP1_INP", 58 PE7 (io) "PE7/ADC_IN22/COMP1_INP", 59 PE8 (io) "PE8/ADC_IN23/COMP1_INP", 60 PE9 (io) "PE9/TIM2_CH1_ETR/ADC_IN24/COMP1_INP", 63 PE10 (io) "PE10/TIM2_CH2/ADC_IN25/COMP1_INP", 64 PE11 (io) "PE11/TIM2_CH3", 65 PE12 (io) "PE12/TIM2_CH4/SPI1_NSS", 66 PE13 (io) "PE13/SPI1_SCK", 67 PE14 (io) "PE14/SPI1_MISO", 68 PE15 (io) "PE15/SPI1_MOSI", 87 PG2 (io) "PG2/ADC_IN10b/COMP1_INP", 88 PG3 (io) "PG3/ADC_IN11b/COMP1_INP", 89 PG4 (io) "PG4/ADC_IN12b/COMP1_INP", 90 PG5 (io), 91 PG6 (io), 92 PG7 (io), 93 PG8 (io), 106 PH2 (io), 124 PG9 (io), 125 PG10 (io), 126 PG11 (io), 127 PG12 (io), 128 PG13 (io), 129 PG14 (io), 132 PG15 (io), 138 BOOT0 (in), 141 PE0 (io) "PE0/TIM4_ETR/TIM10_CH1/LCD_SEG36", 142 PE1 (io) "PE1/TIM11_CH1/LCD_SEG37"
part C pins: 6 VLCD (power), 16 VSS_5 (power), 17 VDD_5 (power), 30 VSSA (power), 31 VREF- (power), 32 VREF+ (power), 33 VDDA (power), 38 VSS_4 (power), 39 VDD_4 (power), 51 VSS_6 (power), 52 VDD_6 (power), 61 VSS_7 (power), 62 VDD_7 (power), 71 VSS_1 (power), 72 VDD_1 (power), 83 VSS_8 (power), 84 VDD_8 (power), 94 VSS_9 (power), 95 VDD_9 (power), 107 VSS_2 (power), 108 VDD_2 (power), 120 VSS_10 (power), 121 VDD_10 (power), 130 VSS_11 (power), 131 VDD_11 (power), 143 VSS_3 (power), 144 VDD_3 (power)

## STM32L152C6T6
designator U?
ARM Cortex-M3 32-bit MCU, 32 KB Flash, 10 KB Internal RAM, 37 I/Os, 48-pin LQFP, -40 to 85 degC, Tray; Manufacturer: STMicroelectronics; PartNumber: STM32L152C6T6; D/A Converter: 2x12-bit (2 Channel); Data E2PROM nom (B): 4096; FLASH Size (Prog) (kB): 32; I/Os (High Current): 37; Internal RAM Size (kB): 10; Supply Voltage(Vcc) min (V): 1.65; DatasheetVersion: Rev. 8; PackageVersion: Rev. 6, 06/2013; PackageReference: LQFP48; PackageDescription: 48-Pin Low Profile Quad Flat Package, 7 x 7 mm Body, 0.5 mm Pitch; Core: ARM Cortex-M3; Operating Frequency(F) (Processor speed) (MHz): 32; Packing: Tray; Mounting Technology: Surface Mount; ComponentLink1Description: Manufacturer URL; ComponentLink1URL: http://www.st.com/web/en/home.html; ComponentLink2Description: Datasheet; ComponentLink2URL: http://www.st.com/st-web-ui/static/active/en/resource/technical/document/datasheet/CD00277537.pdf; ComponentLink3Description: Package Specification; ComponentLink3URL: http://www.st.com/st-web-ui/static/active/en/resource/technical/document/datasheet/DM00058181.pdf
footprint STM-LQFP48_N (QFP, 48-Leads, Body 7x7mm, Pitch 0.5mm, IPC Medium Density)
footprint STM-LQFP48_L (QFP, 48-Leads, Body 7x7mm, Pitch 0.5mm, IPC High Density)
footprint STM-LQFP48_M (QFP, 48-Leads, Body 7x7mm, Pitch 0.5mm, IPC Low Density)
part A pins: 2 PC13-WKUP2 (io) "PC13-WKUP2/PC13/RTC_TAMP1/RTC_TS/RTC_OUT/WKUP2", 3 PC14-OSC32_IN (io) "PC14-OSC32_IN/PC14/OSC32_IN", 4 PC15-OSC32_OUT (io) "PC15-OSC32_OUT/PC15/OSC32_OUT", 5 PH0-OSC_IN (io) "PH0-OSC_IN/PH0/OSC_IN", 6 PH1-OSC_OUT (io) "PH1-OSC_OUT/PH1/OSC_OUT", 7 NRST (io), 10 PA0-WKUP1 (io) "PA0-WKUP1/PA0/WKUP1/USART2_CTS/ADC_IN0/TIM2_CH1_ETR/COMP1_INP", 11 PA1 (io) "PA1/USART2_RTS/ADC_IN1/TIM2_CH2/LCD_SEG0/COMP1_INP", 12 PA2 (io) "PA2/USART2_TX/ADC_IN2/TIM2_CH3/TIM9_CH1/LCD_SEG1/COMP1_INP", 13 PA3 (io) "PA3/USART2_RX/ADC_IN3/TIM2_CH4/TIM9_CH2/LCD_SEG2/COMP1_INP", 14 PA4 (io) "PA4/SPI1_NSS/USART2_CK/ADC_IN4/DAC_OUT1/COMP1_INP", 15 PA5 (io) "PA5/SPI1_SCK/ADC_IN5/DAC_OUT2/TIM2_CH1_ETR/COMP1_INP", 16 PA6 (io) "PA6/SPI1_MISO/ADC_IN6/TIM3_CH1/LCD_SEG3/TIM10_CH1/COMP1_INP", 17 PA7 (io) "PA7/SPI1_MOSI/ADC_IN7/TIM3_CH2/LCD_SEG4/TIM11_CH1/COMP1_INP", 18 PB0 (io) "PB0/ADC_IN8/TIM3_CH3/LCD_SEG5/COMP1_INP/VREF_OUT", 19 PB1 (io) "PB1/ADC_IN9/TIM3_CH4/LCD_SEG6/COMP1_INP/VREF_OUT", 20 PB2 (io) "PB2/BOOT1", 21 PB10 (io) "PB10/I2C2_SCL/USART3_TX/TIM2_CH3/LCD_SEG10", 22 PB11 (io) "PB11/I2C2_SDA/USART3_RX/TIM2_CH4/LCD_SEG11", 25 PB12 (io) "PB12/SPI2_NSS/I2C2_SMBA/USART3_CK/LCD_SEG12/ADC_IN18/COMP1_INP/TIM10_CH1", 26 PB13 (io) "PB13/SPI2_SCK/USART3_CTS/LCD_SEG13/ADC_IN19/COMP1_INP/TIM9_CH1", 27 PB14 (io) "PB14/SPI2_MISO/USART3_RTS/LCD_SEG14/ADC_IN20/COMP1_INP/TIM9_CH2", 28 PB15 (io) "PB15/SPI2_MOSI/LCD_SEG15/ADC_IN21/COMP1_INP/TIM11_CH1/RTC_REFIN", 29 PA8 (io) "PA8/USART1_CK/MCO/LCD_COM0", 30 PA9 (io) "PA9/USART1_TX/LCD_COM1", 31 PA10 (io) "PA10/USART1_RX/LCD_COM2", 32 PA11 (io) "PA11/USART1_CTS/USB_DM/SPI1_MISO", 33 PA12 (io) "PA12/USART1_RTS/USB_DP/SPI1_MOSI", 34 PA13 (io) "PA13/JTMS/SWDAT", 37 PA14 (io) "PA14/JTCK/SWCLK", 38 PA15 (io) "PA15/JTDI/TIM2_CH1_ETR/SPI1_NSS/LCD_SEG17", 39 PB3 (io) "PB3/JTDO/TIM2_CH2/SPI1_SCK/COMP2_INM/LCD_SEG7", 40 PB4 (io) "PB4/NJTRST/TIM3_CH1/SPI1_MISO/COMP2_INP/LCD_SEG8", 41 PB5 (io) "PB5/I2C1_SMBA/TIM3_CH2/SPI1_MOSI/COMP2_INP/LCD_SEG9", 42 PB6 (io) "PB6/I2C1_SCL/TIM4_CH1/USART1_TX", 43 PB7 (io) "PB7/I2C1_SDA/TIM4_CH2/USART1_RX/PVD_IN", 44 BOOT0 (in), 45 PB8 (io) "PB8/TIM4_CH3/I2C1_SCL/LCD_SEG16/TIM10_CH1", 46 PB9 (io) "PB9/TIM4_CH4/I2C1_SDA/LCD_COM3/TIM11_CH1"
part B pins: 1 VLCD (power), 8 VSSA (power), 9 VDDA (power), 23 VSS_1 (power), 24 VDD_1 (power), 35 VSS_2 (power), 36 VDD_2 (power), 47 VSS_3 (power), 48 VDD_3 (power)

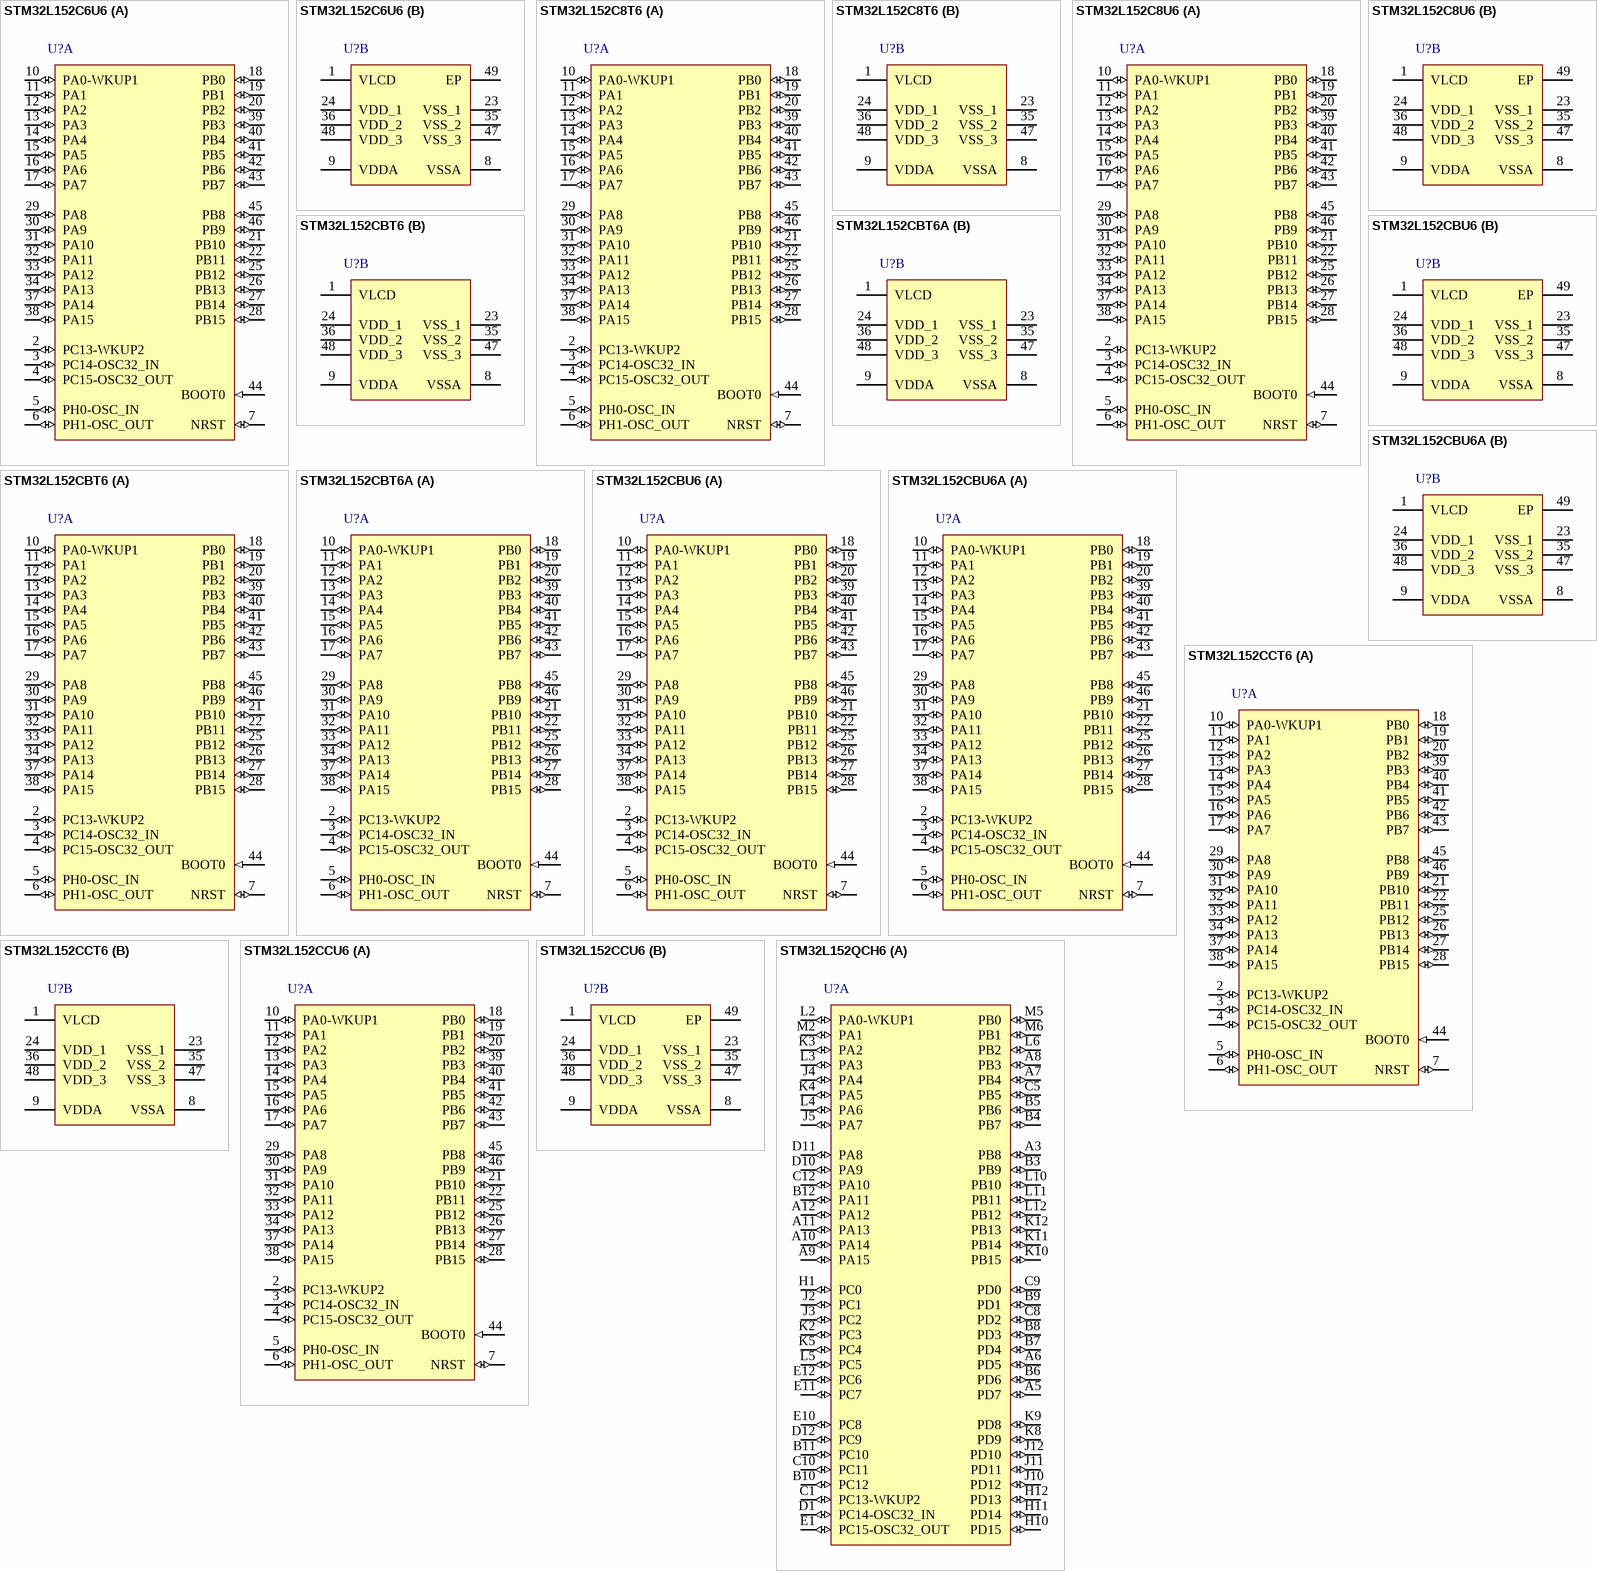
[diagram p13: symbols STM32L152C6U6 to STM32L152QCH6]